# Altium schematic symbol library CHXXX.schlib: 532 symbols (part 3 of 8)
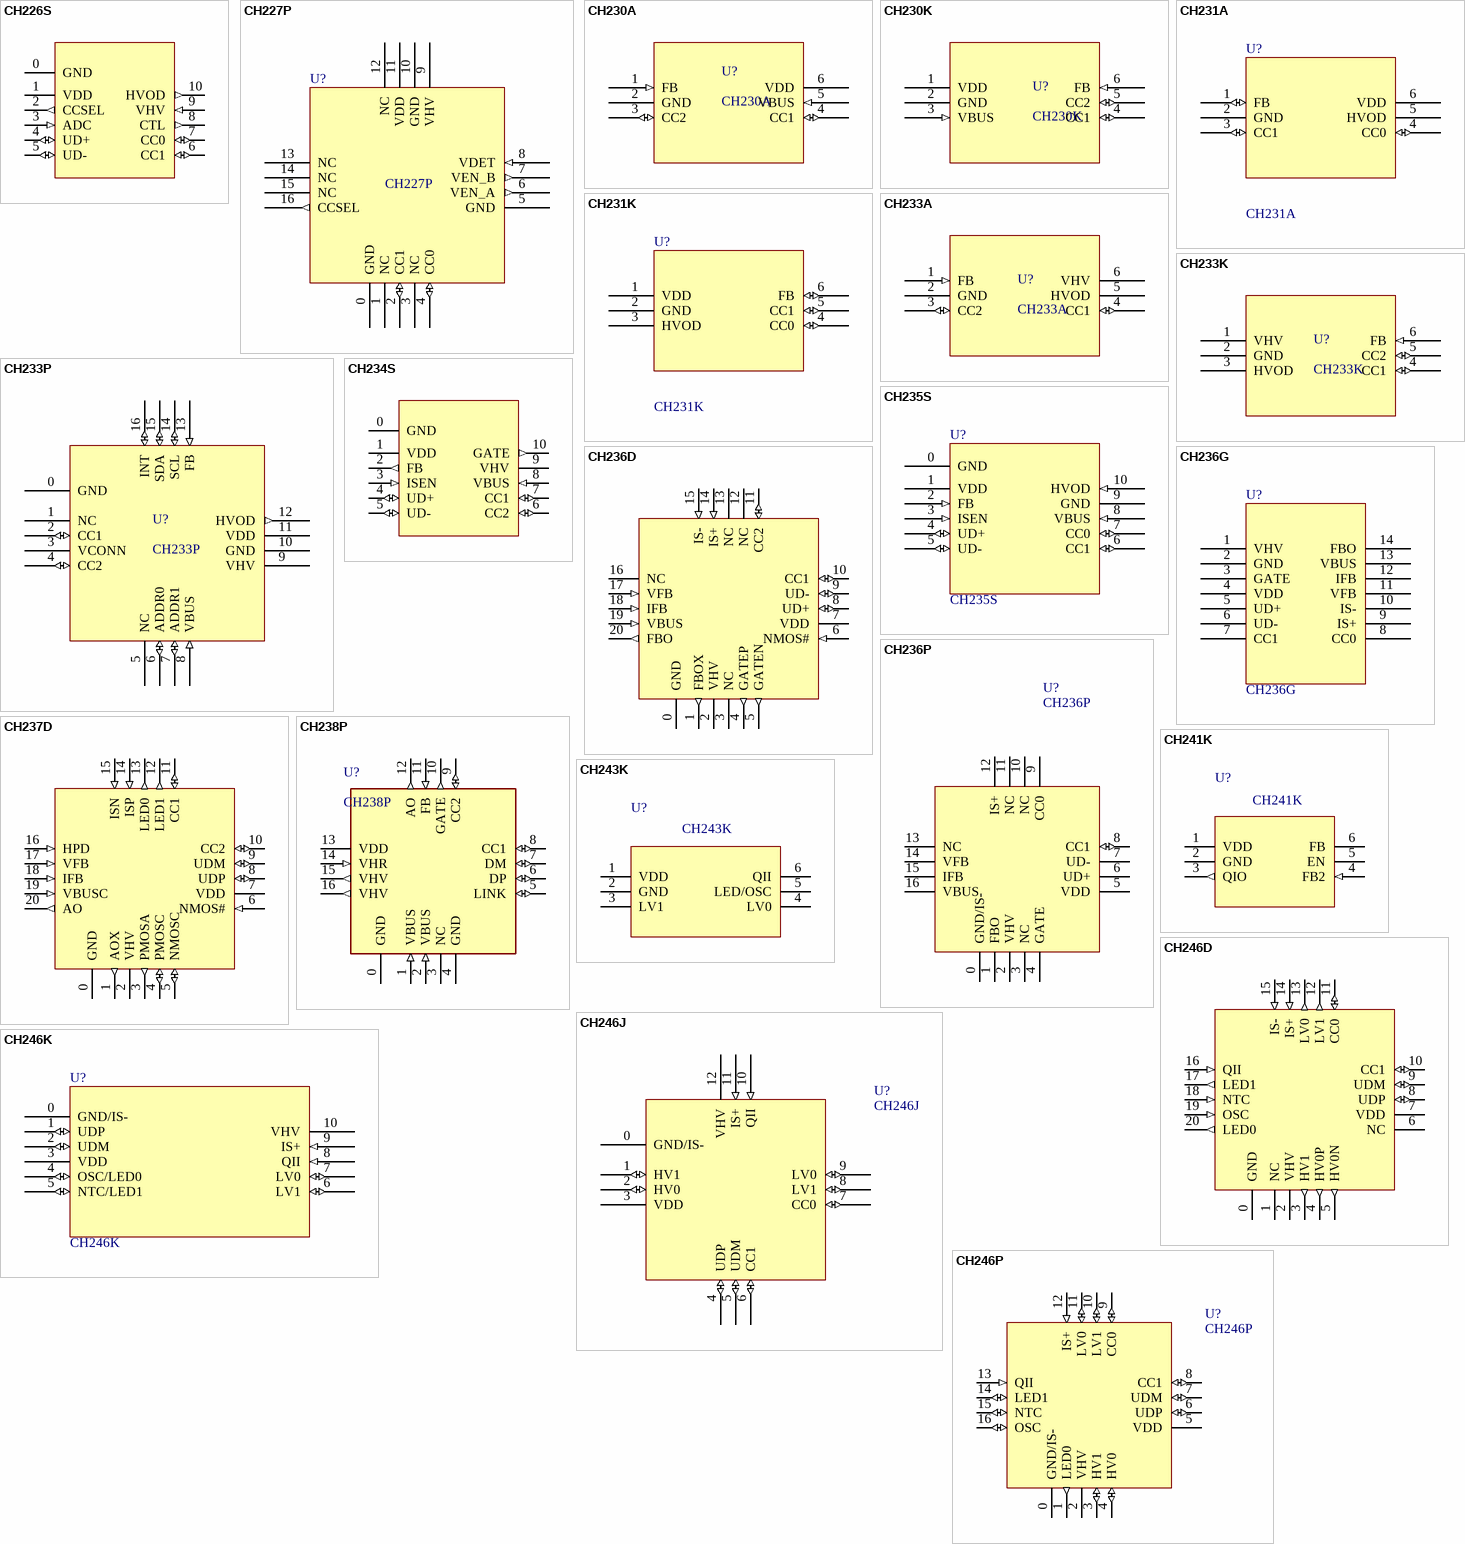
[diagram p72: symbols CH226S to CH246P]

## CH246K
designator U?
Wireless Charge Power with X-drive
footprint ESSOP10
pins: 0 GND/IS- (power), 1 UDP (io), 2 UDM (io), 3 VDD (power), 4 OSC/LED0 (io), 5 NTC/LED1 (io), 6 LV1 (io), 7 LV0 (io), 8 QII (in), 9 IS+ (in), 10 VHV (power)
2 alternate drawings of the same symbol

## CH246P
designator U?
Wireless Charge Power Provider Controller with USB PD & Fast Charge Sink
footprint QFN16_3X3
pins: 0 GND/IS- (power), 1 LED0 (out), 2 VHV (power), 3 HV1 (io), 4 HV0 (io), 5 VDD (power), 6 UDP (io), 7 UDM (io), 8 CC1 (io), 9 CC0 (io), 10 LV1 (io), 11 LV0 (io), 12 IS+ (in), 13 QII (in), 14 LED1 (io), 15 NTC (io), 16 OSC (io)
2 alternate drawings of the same symbol

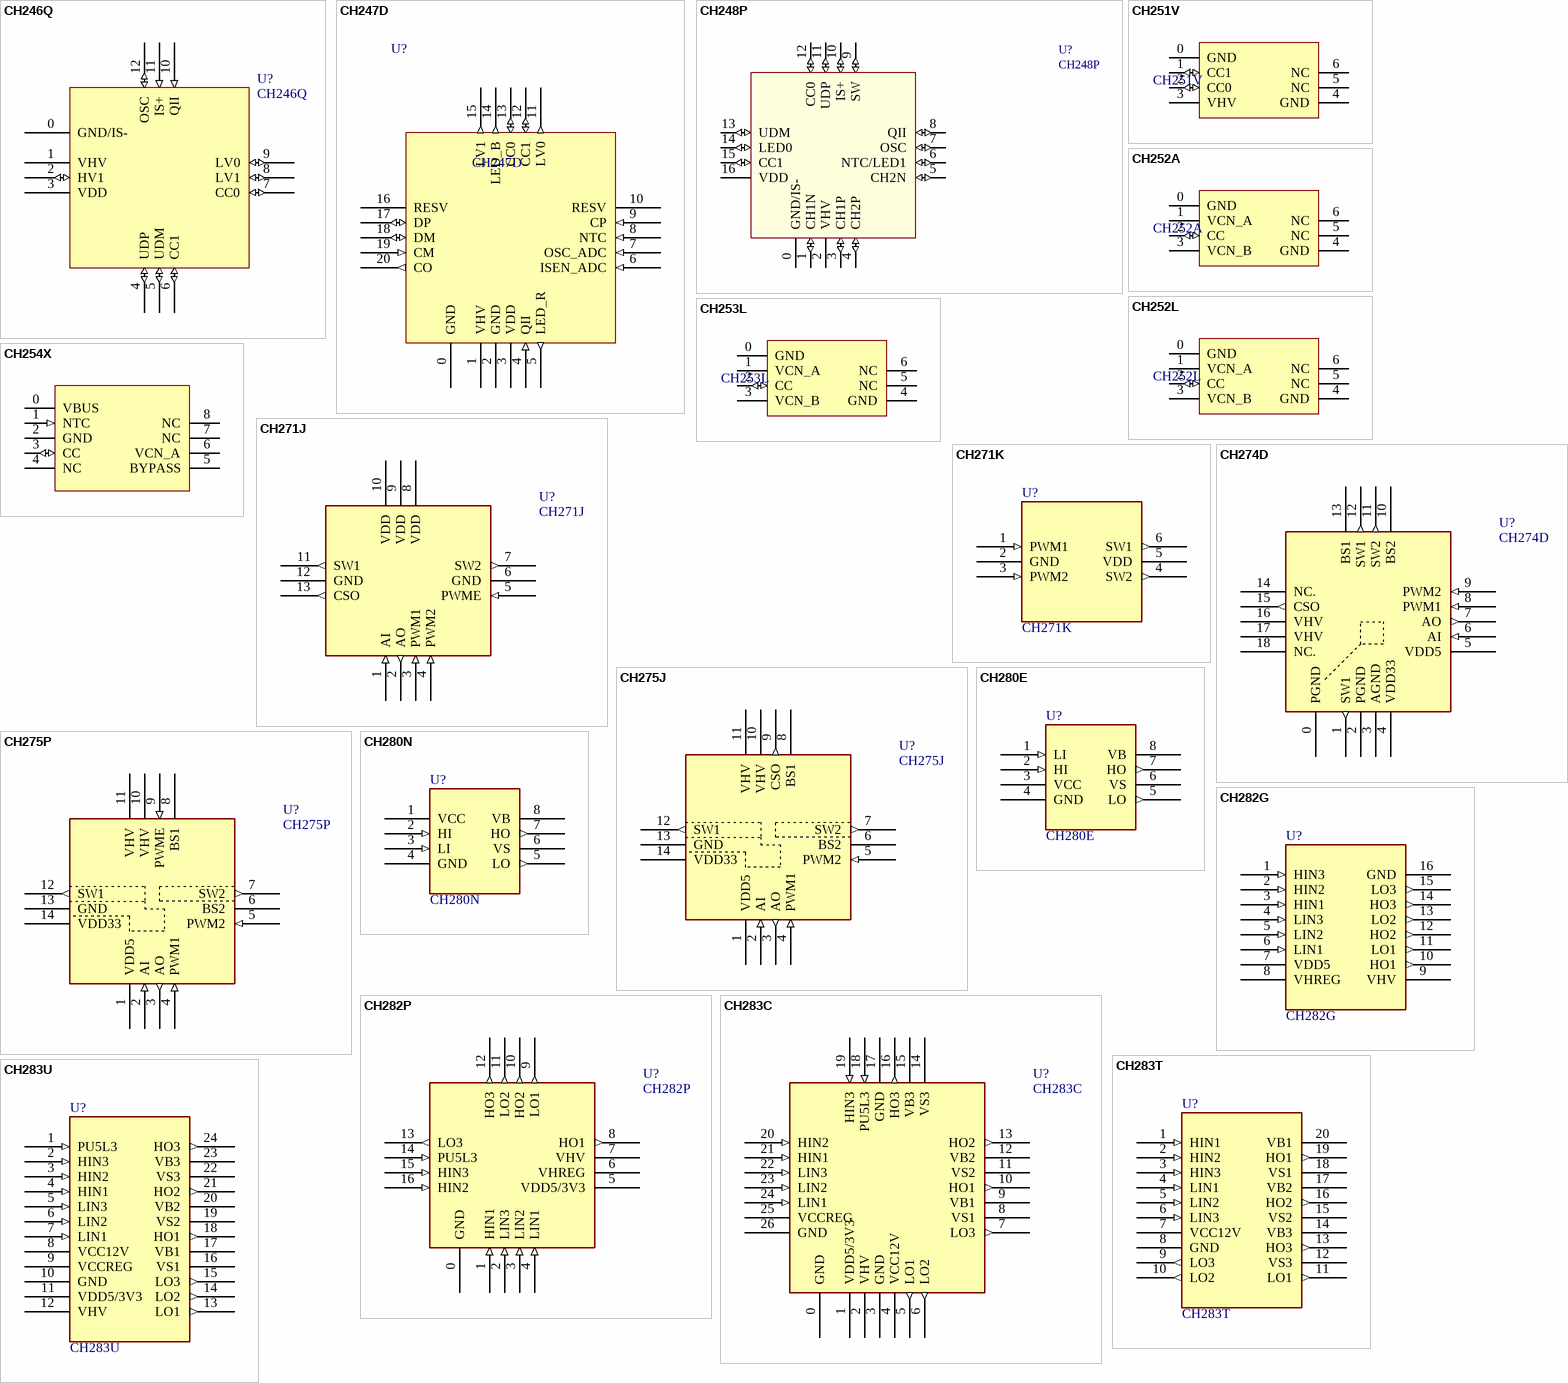
[diagram p19: symbols CH246Q to CH283U]

## CH246Q
designator U?
Wireless Charge Power with X-drive & PD Charge
footprint QFN12_2X2
pins: 0 GND/IS- (power), 1 VHV (power), 2 HV1 (io), 3 VDD (power), 4 UDP (io), 5 UDM (io), 6 CC1 (io), 7 CC0 (io), 8 LV1 (io), 9 LV0 (io), 10 QII (in), 11 IS+ (in), 12 OSC (io)
2 alternate drawings of the same symbol

## CH247D
designator U?
Wireless Charge Power Provider Controller with USB PD & Fast Charge Sink
footprint QFN20_3X3
pins: 0 GND (power), 1 VHV (power), 2 GND (power), 3 VDD (power), 4 QII (in), 5 LED_R (out), 6 ISEN_ADC (in), 7 OSC_ADC (in), 8 NTC (in), 9 CP (in), 10 RESV, 11 LV0 (out), 12 CC1 (io), 13 CC0 (io), 14 LED_B (out), 15 LV1 (out), 16 RESV, 17 DP (io), 18 DM (io), 19 CM (in), 20 CO (out)

## CH248P
designator U?
Wireless Charge Power Provider Controller with USB PD
footprint QFN16_3X3
pins: 0 GND/IS- (power), 1 CH1N (io), 2 VHV (power), 3 CH1P (io), 4 CH2P (io), 5 CH2N (io), 6 NTC/LED1 (io), 7 OSC (io), 8 QII (io), 9 SW (io), 10 IS+ (io), 11 UDP (io), 12 CC0 (io), 13 UDM (io), 14 LED0 (io), 15 CC1 (io), 16 VDD (power)
2 alternate drawings of the same symbol

## CH251V
designator U?
USB Type-C cable E-Marker
footprint DFN6_2X2
pins: 0 GND (power), 1 CC1 (io), 2 CC0 (io), 3 VHV (power), 4 GND (power), 5 NC, 6 NC

## CH252A
designator U?
USB Type-C cable E-Marker
footprint DFN6_2X2
pins: 0 GND (power), 1 VCN_A (power), 2 CC (io), 3 VCN_B (power), 4 GND (power), 5 NC, 6 NC

## CH252L
designator U?
USB Type-C cable E-Marker
footprint DFN6_2X2
pins: 0 GND (power), 1 VCN_A (power), 2 CC (io), 3 VCN_B (power), 4 GND (power), 5 NC, 6 NC

## CH253L
designator U?
USB Type-C cable E-Marker
footprint DFN6_2X2
pins: 0 GND (power), 1 VCN_A (power), 2 CC (io), 3 VCN_B (power), 4 GND (power), 5 NC, 6 NC

## CH254X
designator U?  (value not drawn)
USB Type-C cable E-Marker with over temperature protection
footprint DFN8_2x2 (Footprint not found)
pins: 0 VBUS (power), 1 NTC (in), 2 GND (power), 3 CC (io), 4 NC, 5 BYPASS (power), 6 VCN_A (power), 7 NC, 8 NC

## CH271J
designator U?
5V Full-Bridge Power Stage for Wireless Power Transmitter
footprint QFN13F_2X2 (Footprint not found)
pins: 1 AI (in), 2 AO (out), 3 PWM1 (in), 4 PWM2 (in), 5 PWME (in), 6 GND (power), 7 SW2 (out), 8 VDD (power), 9 VDD (power), 10 VDD (power), 11 SW1 (out), 12 GND (power), 13 CSO (out)
2 alternate drawings of the same symbol

## CH271K
designator U?
5V Full-Bridge Power Stage
footprint SOT-23-6
pins: 1 PWM1 (in), 2 GND (power), 3 PWM2 (in), 4 SW2 (out), 5 VDD (power), 6 SW1 (out)
2 alternate drawings of the same symbol

## CH274D
designator U?
12V Full-Bridge Power Stage for Wireless Power Transmitter
footprint QFN18E_3X3
pins: 0 PGND (power), 1 SW1 (out), 2 PGND (power), 3 AGND (power), 4 VDD33 (power), 5 VDD5 (power), 6 AI (in), 7 AO (out), 8 PWM1 (in), 9 PWM2 (in), 10 BS2 (power), 11 SW2 (out), 12 SW1 (out), 13 BS1 (power), 14 NC., 15 CSO (out), 16 VHV (power), 17 VHV (power), 18 NC.
2 alternate drawings of the same symbol

## CH275J
designator U?
20V Full-Bridge Power Stage for Wireless Power Transmitter
footprint QFN14F_3X3 (Footprint not found)
pins: 1 VDD5 (power), 2 AI (in), 3 AO (out), 4 PWM1 (in), 5 PWM2 (in), 6 BS2 (power), 7 SW2 (out), 8 BS1 (power), 9 CSO (out), 10 VHV (power), 11 VHV (power), 12 SW1 (out), 13 GND (power), 14 VDD33 (power)
2 alternate drawings of the same symbol

## CH275P
designator U?
20V Full-Bridge Power Stage for Wireless Power Transmitter
footprint QFN14F_3X3 (Footprint not found)
pins: 1 VDD5 (power), 2 AI (in), 3 AO (out), 4 PWM1 (in), 5 PWM2 (in), 6 BS2 (power), 7 SW2 (out), 8 BS1 (power), 9 PWME (in), 10 VHV (power), 11 VHV (power), 12 SW1 (out), 13 GND (power), 14 VDD33 (power)
2 alternate drawings of the same symbol

## CH280E
designator U?
NMOS half-bridge gate driver
footprint SOP8
pins: 1 LI (in), 2 HI (in), 3 VCC (power), 4 GND (power), 5 LO (out), 6 VS (power), 7 HO (out), 8 VB (power)
2 alternate drawings of the same symbol

## CH280N
designator U?
NMOS half-bridge gate driver
footprint SOP8
pins: 1 VCC (power), 2 HI (in), 3 LI (in), 4 GND (power), 5 LO (out), 6 VS (power), 7 HO (out), 8 VB (power)
2 alternate drawings of the same symbol

## CH282G
designator U?
three-phase P/NMOS gate driver with LDO
footprint SOP16
pins: 1 HIN3 (in), 2 HIN2 (in), 3 HIN1 (in), 4 LIN3 (in), 5 LIN2 (in), 6 LIN1 (in), 7 VDD5 (power), 8 VHREG (power), 9 VHV (power), 10 HO1 (out), 11 LO1 (out), 12 HO2 (out), 13 LO2 (out), 14 HO3 (out), 15 LO3 (out), 16 GND (power)
2 alternate drawings of the same symbol

## CH282P
designator U?
three-phase P/NMOS gate driver with LDO
footprint QFN16_3X3
pins: 0 GND (power), 1 HIN1 (in), 2 LIN3 (in), 3 LIN2 (in), 4 LIN1 (in), 5 VDD5/3V3 (power), 6 VHREG (power), 7 VHV (power), 8 HO1 (out), 9 LO1 (out), 10 HO2 (out), 11 LO2 (out), 12 HO3 (out), 13 LO3 (out), 14 PU5L3 (in), 15 HIN3 (in), 16 HIN2 (in)
2 alternate drawings of the same symbol

## CH283C
designator U?
three-phase NMOS gate driver with LDO
footprint QFN26C_3X3
pins: 0 GND (power), 1 VDD5/3V3 (power), 2 VHV (power), 3 GND (power), 4 VCC12V (power), 5 LO1 (out), 6 LO2 (out), 7 LO3 (out), 8 VS1 (power), 9 VB1 (power), 10 HO1 (out), 11 VS2 (power), 12 VB2 (power), 13 HO2 (out), 14 VS3 (power), 15 VB3 (power), 16 HO3 (out), 17 GND (power), 18 PU5L3 (in), 19 HIN3 (in), 20 HIN2 (in), 21 HIN1 (in), 22 LIN3 (in), 23 LIN2 (in), 24 LIN1 (in), 25 VCCREG (power), 26 GND (power)
2 alternate drawings of the same symbol

## CH283T
designator U?
three-phase NMOS gate driver
footprint TSSOP20
pins: 1 HIN1 (in), 2 HIN2 (in), 3 HIN3 (in), 4 LIN1 (in), 5 LIN2 (in), 6 LIN3 (in), 7 VCC12V (power), 8 GND (power), 9 LO3 (out), 10 LO2 (out), 11 LO1 (out), 12 VS3 (power), 13 HO3 (out), 14 VB3 (power), 15 VS2 (power), 16 HO2 (out), 17 VB2 (power), 18 VS1 (power), 19 HO1 (out), 20 VB1 (power)
2 alternate drawings of the same symbol

## CH283U
designator U?
three-phase NMOS gate driver with LDO
footprint QSOP24
pins: 1 PU5L3 (in), 2 HIN3 (in), 3 HIN2 (in), 4 HIN1 (in), 5 LIN3 (in), 6 LIN2 (in), 7 LIN1 (in), 8 VCC12V (power), 9 VCCREG (power), 10 GND (power), 11 VDD5/3V3 (power), 12 VHV (power), 13 LO1 (out), 14 LO2 (out), 15 LO3 (out), 16 VS1 (power), 17 VB1 (power), 18 HO1 (out), 19 VS2 (power), 20 VB2 (power), 21 HO2 (out), 22 VS3 (power), 23 VB3 (power), 24 HO3 (out)
2 alternate drawings of the same symbol

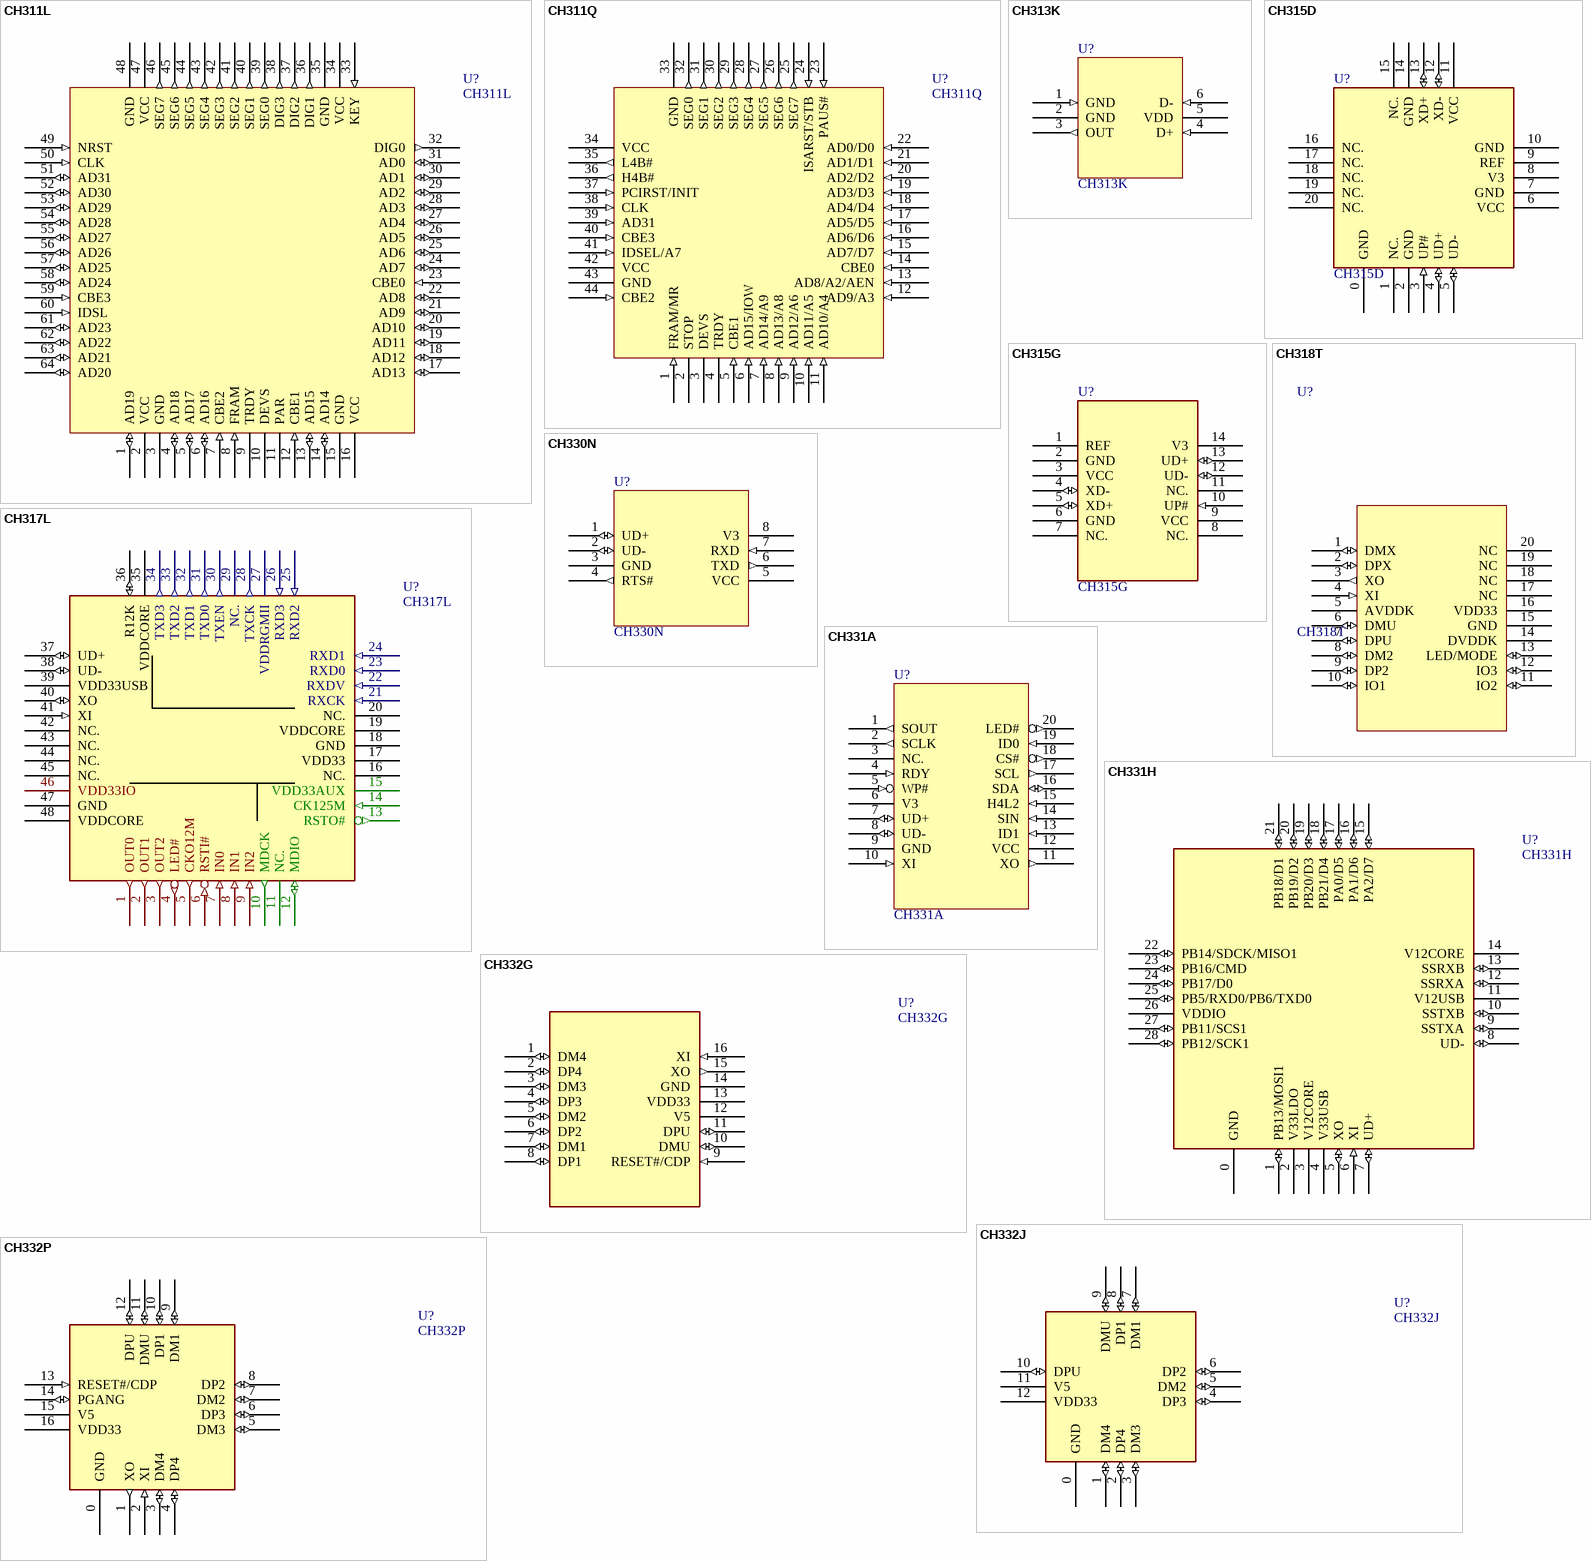
[diagram p20: symbols CH311L to CH332P]

## CH311L
designator U?
PC debug port monitor, 4 Digits * 8 Segments, PCI
footprint LQFP64
pins: 1 AD19 (io), 2 VCC (power), 3 GND (power), 4 AD18 (io), 5 AD17 (io), 6 AD16 (io), 7 CBE2 (in), 8 FRAM (in), 9 TRDY (hiz), 10 DEVS (hiz), 11 PAR (hiz), 12 CBE1 (in), 13 AD15 (io), 14 AD14 (io), 15 GND (power), 16 VCC (power), 17 AD13 (io), 18 AD12 (io), 19 AD11 (io), 20 AD10 (io), 21 AD9 (io), 22 AD8 (io), 23 CBE0 (in), 24 AD7 (io), 25 AD6 (io), 26 AD5 (io), 27 AD4 (io), 28 AD3 (io), 29 AD2 (io), 30 AD1 (io), 31 AD0 (io), 32 DIG0 (out), 33 KEY (in), 34 VCC (power), 35 GND (power), 36 DIG1 (out), 37 DIG2 (out), 38 DIG3 (out), 39 SEG0 (out), 40 SEG1 (out), 41 SEG2 (out), 42 SEG3 (out), 43 SEG4 (out), 44 SEG5 (out), 45 SEG6 (out), 46 SEG7 (out), 47 VCC (power), 48 GND (power), 49 NRST (in), 50 CLK (in), 51 AD31 (io), 52 AD30 (io), 53 AD29 (io), 54 AD28 (io), 55 AD27 (io), 56 AD26 (io), 57 AD25 (io), 58 AD24 (io), 59 CBE3 (in), 60 IDSL (in), 61 AD23 (io), 62 AD22 (io), 63 AD21 (io), 64 AD20 (io)

## CH311Q
designator U?
PC debug port monitor, 2 Digits * 8 Segments, PCI & ISA & LPT
footprint LQFP44
pins: 1 FRAM/MR (in), 2 STOP (hiz), 3 DEVS (hiz), 4 TRDY (hiz), 5 CBE1 (in), 6 AD15/IOW (in), 7 AD14/A9 (in), 8 AD13/A8 (in), 9 AD12/A6 (in), 10 AD11/A5 (in), 11 AD10/A4 (in), 12 AD9/A3 (in), 13 AD8/A2/AEN (in), 14 CBE0 (in), 15 AD7/D7 (in), 16 AD6/D6 (in), 17 AD5/D5 (in), 18 AD4/D4 (in), 19 AD3/D3 (in), 20 AD2/D2 (in), 21 AD1/D1 (in), 22 AD0/D0 (in), 23 PAUS# (in), 24 ISARST/STB (in), 25 SEG7 (out), 26 SEG6 (out), 27 SEG5 (out), 28 SEG4 (out), 29 SEG3 (out), 30 SEG2 (out), 31 SEG1 (out), 32 SEG0 (out), 33 GND (power), 34 VCC (power), 35 L4B# (out), 36 H4B# (out), 37 PCIRST/INIT (in), 38 CLK (in), 39 AD31 (in), 40 CBE3 (in), 41 IDSEL/A7 (in), 42 VCC (power), 43 GND (power), 44 CBE2 (in)

## CH313K
designator U?
USB transfer detection
footprint SOT-363
pins: 1 GND (in), 2 GND (power), 3 OUT (out), 4 D+ (in), 5 VDD (power), 6 D- (in)
2 alternate drawings of the same symbol

## CH315D
designator U?
USB lengthen wire controller, Full-Speed & Low-Speed
footprint QFN20_3X3 (Footprint not found)
pins: 0 GND (power), 1 NC., 2 GND (power), 3 UP# (in), 4 UD+ (io), 5 UD- (io), 6 VCC (power), 7 GND (power), 8 V3 (power), 9 REF (power), 10 GND (power), 11 VCC (power), 12 XD- (io), 13 XD+ (io), 14 GND (power), 15 NC., 16 NC., 17 NC., 18 NC., 19 NC., 20 NC.

## CH315G
designator U?
USB lengthen wire controller, Full-Speed & Low-Speed
footprint SOP14
pins: 1 REF (power), 2 GND (power), 3 VCC (power), 4 XD- (io), 5 XD+ (io), 6 GND (power), 7 NC., 8 NC., 9 VCC (power), 10 UP# (in), 11 NC., 12 UD- (io), 13 UD+ (io), 14 V3 (power)

## CH317L
designator U?
High-Speed USB lengthen wire controller for longer distance
footprint LQFP48
pins: 1 OUT0 (out), 2 OUT1 (out), 3 OUT2 (out), 4 LED# (out), 5 CKO12M (out), 6 RSTI# (in), 7 IN0 (in), 8 IN1 (in), 9 IN2 (in), 10 MDCK (out), 11 NC., 12 MDIO (io), 13 RSTO# (out), 14 CK125M (in), 15 VDD33AUX (power), 16 NC., 17 VDD33 (power), 18 GND (power), 19 VDDCORE (power), 20 NC., 21 RXCK (in), 22 RXDV (in), 23 RXD0 (in), 24 RXD1 (in), 25 RXD2 (in), 26 RXD3 (in), 27 VDDRGMII (power), 28 TXCK (out), 29 NC., 30 TXEN (out), 31 TXD0 (out), 32 TXD1 (out), 33 TXD2 (out), 34 TXD3 (out), 35 VDDCORE (power), 36 R12K (io), 37 UD+ (io), 38 UD- (io), 39 VDD33USB (power), 40 XO (io), 41 XI (in), 42 NC., 43 NC., 44 NC., 45 NC., 46 VDD33IO (power), 47 GND (power), 48 VDDCORE (power)

## CH318T
designator U?
2 ports High-Speed USB Hub Isolator
footprint TSSOP20
pins: 1 DMX (io), 2 DPX (io), 3 XO (out), 4 XI (in), 5 AVDDK (power), 6 DMU (io), 7 DPU (io), 8 DM2 (io), 9 DP2 (io), 10 IO1 (io), 11 IO2 (io), 12 IO3 (io), 13 LED/MODE (io), 14 DVDDK (power), 15 GND (power), 16 VDD33 (power), 17 NC, 18 NC, 19 NC, 20 NC
2 alternate drawings of the same symbol

## CH330N
designator U?
USB to TTL Serial / UART
footprint SOP8
pins: 1 UD+ (io), 2 UD- (io), 3 GND (power), 4 RTS# (out), 5 VCC (power), 6 TXD (out), 7 RXD (in), 8 V3 (power)

## CH331A
designator U?
Mini USB Disk Controller for serial EEPROM or Flash
footprint SSOP20
pins: 1 SOUT (out), 2 SCLK (out), 3 NC., 4 RDY (in), 5 WP# (in), 6 V3 (power), 7 UD+ (io), 8 UD- (io), 9 GND (power), 10 XI (in), 11 XO (out), 12 VCC (power), 13 ID1 (in), 14 SIN (in), 15 H4L2 (in), 16 SDA (io), 17 SCL (out), 18 CS# (out), 19 ID0 (in), 20 LED# (out)

## CH331H
designator U?
RISC-V USB 3.0 Disk Controller with AES/SM4
footprint QFN28_5X5
pins: 0 GND (power), 1 PB13/MOSI1 (io), 2 V33LDO (power), 3 V12CORE (power), 4 V33USB (power), 5 XO (io), 6 XI (in), 7 UD+ (io), 8 UD- (io), 9 SSTXA (io), 10 SSTXB (io), 11 V12USB (power), 12 SSRXA (io), 13 SSRXB (io), 14 V12CORE (power), 15 PA2/D7 (io), 16 PA1/D6 (io), 17 PA0/D5 (io), 18 PB21/D4 (io), 19 PB20/D3 (io), 20 PB19/D2 (io), 21 PB18/D1 (io), 22 PB14/SDCK/MISO1 (io), 23 PB16/CMD (io), 24 PB17/D0 (io), 25 PB5/RXD0/PB6/TXD0 (io), 26 VDDIO (power), 27 PB11/SCS1 (io), 28 PB12/SCK1 (io)
2 alternate drawings of the same symbol

## CH332G
designator U?
4 ports High-Speed USB STT Hub
footprint SOP16 (Footprint not found)
pins: 1 DM4 (io), 2 DP4 (io), 3 DM3 (io), 4 DP3 (io), 5 DM2 (io), 6 DP2 (io), 7 DM1 (io), 8 DP1 (io), 9 RESET#/CDP (in), 10 DMU (io), 11 DPU (io), 12 V5 (power), 13 VDD33 (power), 14 GND (power), 15 XO (out), 16 XI (in)
2 alternate drawings of the same symbol

## CH332J
designator U?
4 ports High-Speed USB STT Hub with internal oscillator
footprint QFN12_2X2
pins: 0 GND (power), 1 DM4 (io), 2 DP4 (io), 3 DM3 (io), 4 DP3 (io), 5 DM2 (io), 6 DP2 (io), 7 DM1 (io), 8 DP1 (io), 9 DMU (io), 10 DPU (io), 11 V5 (power), 12 VDD33 (power)
2 alternate drawings of the same symbol

## CH332P
designator U?
4 ports High-Speed USB STT Hub
footprint QFN16_3X3 (Footprint not found)
pins: 0 GND (power), 1 XO (out), 2 XI (in), 3 DM4 (io), 4 DP4 (io), 5 DM3 (io), 6 DP3 (io), 7 DM2 (io), 8 DP2 (io), 9 DM1 (io), 10 DP1 (io), 11 DMU (io), 12 DPU (io), 13 RESET#/CDP (in), 14 PGANG (io), 15 V5 (power), 16 VDD33 (power)
2 alternate drawings of the same symbol

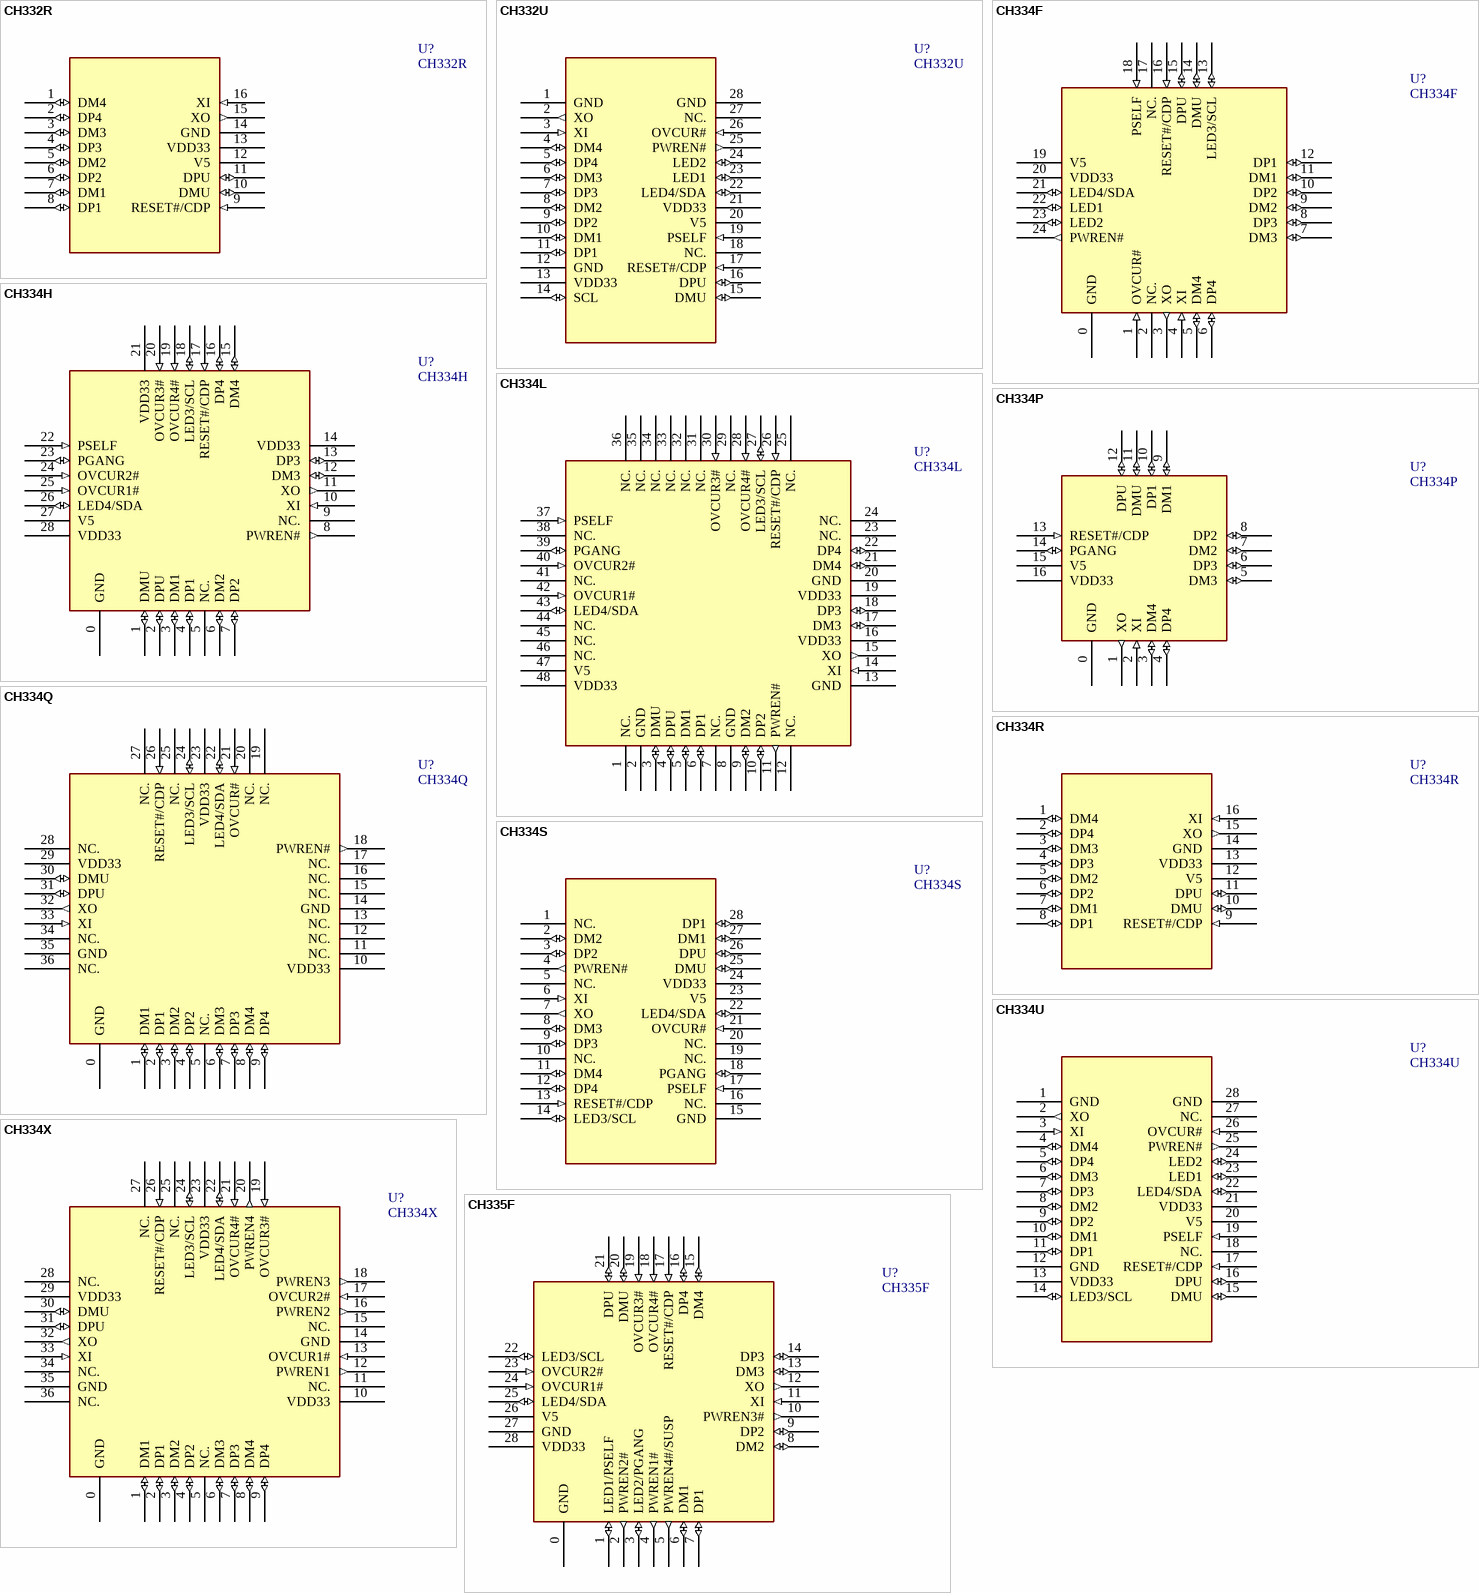
[diagram p21: symbols CH332R to CH335F]

## CH332R
designator U?
4 ports High-Speed USB STT Hub
footprint QSOP16 (Footprint not found)
pins: 1 DM4 (io), 2 DP4 (io), 3 DM3 (io), 4 DP3 (io), 5 DM2 (io), 6 DP2 (io), 7 DM1 (io), 8 DP1 (io), 9 RESET#/CDP (in), 10 DMU (io), 11 DPU (io), 12 V5 (power), 13 VDD33 (power), 14 GND (power), 15 XO (out), 16 XI (in)
2 alternate drawings of the same symbol

## CH332U
designator U?
4 ports High-Speed USB STT Hub with over current detect & power control
footprint QSOP28 (Footprint not found)
pins: 1 GND (power), 2 XO (out), 3 XI (in), 4 DM4 (io), 5 DP4 (io), 6 DM3 (io), 7 DP3 (io), 8 DM2 (io), 9 DP2 (io), 10 DM1 (io), 11 DP1 (io), 12 GND (power), 13 VDD33 (power), 14 SCL (io), 15 DMU (io), 16 DPU (io), 17 RESET#/CDP (in), 18 NC., 19 PSELF (in), 20 V5 (power), 21 VDD33 (power), 22 LED4/SDA (io), 23 LED1 (io), 24 LED2 (io), 25 PWREN# (out), 26 OVCUR# (in), 27 NC., 28 GND (power)
2 alternate drawings of the same symbol

## CH334F
designator U?
4 ports High-Speed USB MTT Hub with over current detect & power control
footprint QFN24_4X4 (Footprint not found)
pins: 0 GND (power), 1 OVCUR# (in), 2 NC., 3 XO (out), 4 XI (in), 5 DM4 (io), 6 DP4 (io), 7 DM3 (io), 8 DP3 (io), 9 DM2 (io), 10 DP2 (io), 11 DM1 (io), 12 DP1 (io), 13 LED3/SCL (io), 14 DMU (io), 15 DPU (io), 16 RESET#/CDP (in), 17 NC., 18 PSELF (in), 19 V5 (power), 20 VDD33 (power), 21 LED4/SDA (io), 22 LED1 (io), 23 LED2 (io), 24 PWREN# (out)
2 alternate drawings of the same symbol

## CH334H
designator U?
4 ports High-Speed USB MTT Hub with 4 over current detect
footprint QFN28_5X5 (Footprint not found)
pins: 0 GND (power), 1 DMU (io), 2 DPU (io), 3 DM1 (io), 4 DP1 (io), 5 NC., 6 DM2 (io), 7 DP2 (io), 8 PWREN# (out), 9 NC., 10 XI (in), 11 XO (out), 12 DM3 (io), 13 DP3 (io), 14 VDD33 (power), 15 DM4 (io), 16 DP4 (io), 17 RESET#/CDP (in), 18 LED3/SCL (io), 19 OVCUR4# (in), 20 OVCUR3# (in), 21 VDD33 (power), 22 PSELF (in), 23 PGANG (io), 24 OVCUR2# (in), 25 OVCUR1# (in), 26 LED4/SDA (io), 27 V5 (power), 28 VDD33 (power)
2 alternate drawings of the same symbol

## CH334L
designator U?
4 ports High-Speed USB MTT Hub with 4 over current detect
footprint LQFP48 (Footprint not found)
pins: 1 NC., 2 GND (power), 3 DMU (io), 4 DPU (io), 5 DM1 (io), 6 DP1 (io), 7 NC., 8 GND (power), 9 DM2 (io), 10 DP2 (io), 11 PWREN# (out), 12 NC., 13 GND (power), 14 XI (in), 15 XO (out), 16 VDD33 (power), 17 DM3 (io), 18 DP3 (io), 19 VDD33 (power), 20 GND (power), 21 DM4 (io), 22 DP4 (io), 23 NC., 24 NC., 25 NC., 26 RESET#/CDP (in), 27 LED3/SCL (io), 28 OVCUR4# (in), 29 NC., 30 OVCUR3# (in), 31 NC., 32 NC., 33 NC., 34 NC., 35 NC., 36 NC., 37 PSELF (in), 38 NC., 39 PGANG (io), 40 OVCUR2# (in), 41 NC., 42 OVCUR1# (in), 43 LED4/SDA (io), 44 NC., 45 NC., 46 NC., 47 V5 (power), 48 VDD33 (power)
2 alternate drawings of the same symbol

## CH334P
designator U?
4 ports High-Speed USB MTT Hub
footprint QFN16_3X3 (Footprint not found)
pins: 0 GND (power), 1 XO (out), 2 XI (in), 3 DM4 (io), 4 DP4 (io), 5 DM3 (io), 6 DP3 (io), 7 DM2 (io), 8 DP2 (io), 9 DM1 (io), 10 DP1 (io), 11 DMU (io), 12 DPU (io), 13 RESET#/CDP (in), 14 PGANG (io), 15 V5 (power), 16 VDD33 (power)
2 alternate drawings of the same symbol

## CH334Q
designator U?
4 ports High-Speed USB MTT Hub with over current detect & power control
footprint QFN36_6X6
pins: 0 GND (power), 1 DM1 (io), 2 DP1 (io), 3 DM2 (io), 4 DP2 (io), 5 NC., 6 DM3 (io), 7 DP3 (io), 8 DM4 (io), 9 DP4 (io), 10 VDD33 (power), 11 NC., 12 NC., 13 NC., 14 GND (power), 15 NC., 16 NC., 17 NC., 18 PWREN# (out), 19 NC., 20 NC., 21 OVCUR# (in), 22 LED4/SDA (io), 23 VDD33 (power), 24 LED3/SCL (io), 25 NC., 26 RESET#/CDP (in), 27 NC., 28 NC., 29 VDD33 (power), 30 DMU (io), 31 DPU (io), 32 XO (out), 33 XI (in), 34 NC., 35 GND (power), 36 NC.
2 alternate drawings of the same symbol

## CH334R
designator U?
4 ports High-Speed USB MTT Hub
footprint QSOP16 (Footprint not found)
pins: 1 DM4 (io), 2 DP4 (io), 3 DM3 (io), 4 DP3 (io), 5 DM2 (io), 6 DP2 (io), 7 DM1 (io), 8 DP1 (io), 9 RESET#/CDP (in), 10 DMU (io), 11 DPU (io), 12 V5 (power), 13 VDD33 (power), 14 GND (power), 15 XO (out), 16 XI (in)
2 alternate drawings of the same symbol

## CH334S
designator U?
4 ports High-Speed USB MTT Hub with over current detect & power control
footprint SSOP28 (Footprint not found)
pins: 1 NC., 2 DM2 (io), 3 DP2 (io), 4 PWREN# (out), 5 NC., 6 XI (in), 7 XO (out), 8 DM3 (io), 9 DP3 (io), 10 NC., 11 DM4 (io), 12 DP4 (io), 13 RESET#/CDP (in), 14 LED3/SCL (io), 15 GND (power), 16 NC., 17 PSELF (in), 18 PGANG (io), 19 NC., 20 NC., 21 OVCUR# (in), 22 LED4/SDA (io), 23 V5 (power), 24 VDD33 (power), 25 DMU (io), 26 DPU (io), 27 DM1 (io), 28 DP1 (io)
2 alternate drawings of the same symbol

## CH334U
designator U?
4 ports High-Speed USB MTT Hub with over current detect & power control
footprint QSOP28 (Footprint not found)
pins: 1 GND (power), 2 XO (out), 3 XI (in), 4 DM4 (io), 5 DP4 (io), 6 DM3 (io), 7 DP3 (io), 8 DM2 (io), 9 DP2 (io), 10 DM1 (io), 11 DP1 (io), 12 GND (power), 13 VDD33 (power), 14 LED3/SCL (io), 15 DMU (io), 16 DPU (io), 17 RESET#/CDP (in), 18 NC., 19 PSELF (in), 20 V5 (power), 21 VDD33 (power), 22 LED4/SDA (io), 23 LED1 (io), 24 LED2 (io), 25 PWREN# (out), 26 OVCUR# (in), 27 NC., 28 GND (power)
2 alternate drawings of the same symbol

## CH334X
designator U?
4 ports High-Speed USB MTT Hub with 4 over current detect & power control
footprint QFN36_6X6
pins: 0 GND (power), 1 DM1 (io), 2 DP1 (io), 3 DM2 (io), 4 DP2 (io), 5 NC., 6 DM3 (io), 7 DP3 (io), 8 DM4 (io), 9 DP4 (io), 10 VDD33 (power), 11 NC., 12 PWREN1 (out), 13 OVCUR1# (in), 14 GND (power), 15 NC., 16 PWREN2 (out), 17 OVCUR2# (in), 18 PWREN3 (out), 19 OVCUR3# (in), 20 PWREN4 (out), 21 OVCUR4# (in), 22 LED4/SDA (io), 23 VDD33 (power), 24 LED3/SCL (io), 25 NC., 26 RESET#/CDP (in), 27 NC., 28 NC., 29 VDD33 (power), 30 DMU (io), 31 DPU (io), 32 XO (out), 33 XI (in), 34 NC., 35 GND (power), 36 NC.
2 alternate drawings of the same symbol

## CH335F
designator U?
4 ports High-Speed USB MTT Hub with 4 over current detect & power control
footprint QFN28_4X4
pins: 0 GND (power), 1 LED1/PSELF (io), 2 PWREN2# (out), 3 LED2/PGANG (io), 4 PWREN1# (out), 5 PWREN4#/SUSP (out), 6 DM1 (io), 7 DP1 (io), 8 DM2 (io), 9 DP2 (io), 10 PWREN3# (out), 11 XI (in), 12 XO (out), 13 DM3 (io), 14 DP3 (io), 15 DM4 (io), 16 DP4 (io), 17 RESET#/CDP (in), 18 OVCUR4# (in), 19 OVCUR3# (in), 20 DMU (io), 21 DPU (io), 22 LED3/SCL (io), 23 OVCUR2# (in), 24 OVCUR1# (in), 25 LED4/SDA (io), 26 V5 (power), 27 GND (power), 28 VDD33 (power)
2 alternate drawings of the same symbol

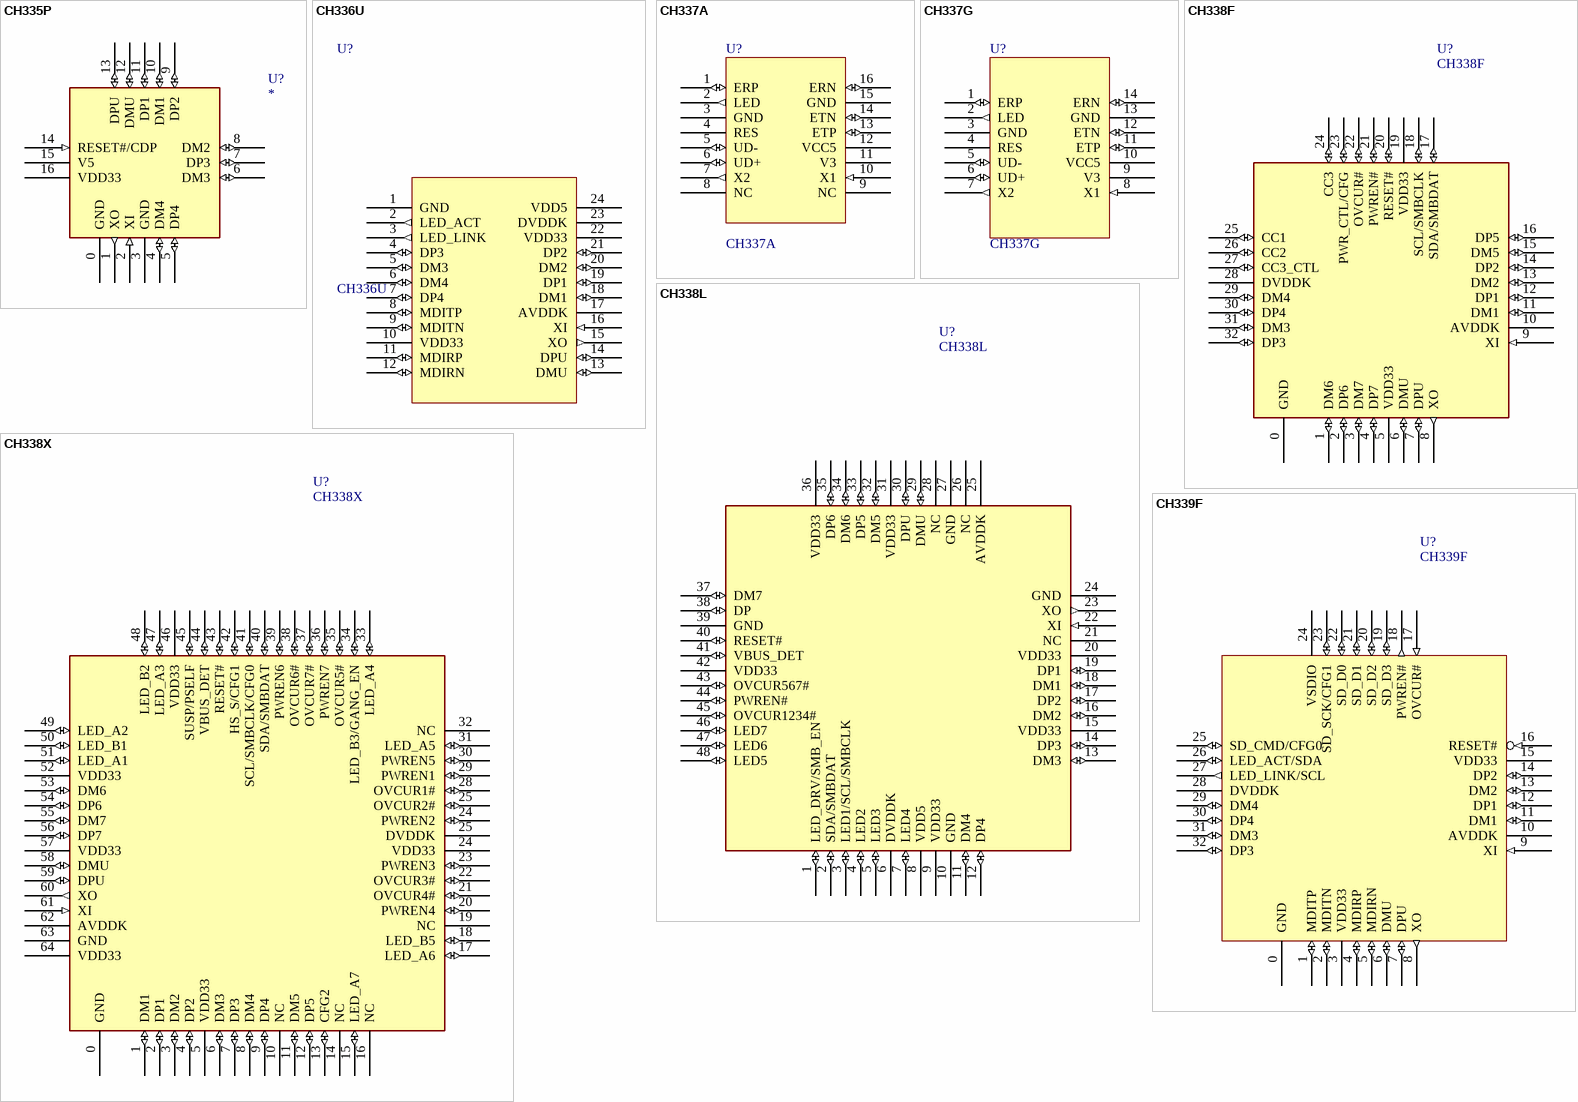
[diagram p22: symbols CH335P to CH339F]

## CH335P
designator U?
4 ports High-Speed USB MTT Hub with internal oscillator
footprint QFN16C_2X2
pins: 0 GND (power), 1 XO (out), 2 XI (in), 3 GND (power), 4 DM4 (io), 5 DP4 (io), 6 DM3 (io), 7 DP3 (io), 8 DM2 (io), 9 DP2 (io), 10 DM1 (io), 11 DP1 (io), 12 DMU (io), 13 DPU (io), 14 RESET#/CDP (in), 15 V5 (power), 16 VDD33 (power)
2 alternate drawings of the same symbol

## CH336U
designator U?
4 ports High-Speed USB MTT Hub with ethernet
footprint QSOP24
pins: 1 GND (power), 2 LED_ACT (out), 3 LED_LINK (out), 4 DP3 (io), 5 DM3 (io), 6 DM4 (io), 7 DP4 (io), 8 MDITP (io), 9 MDITN (io), 10 VDD33 (power), 11 MDIRP (io), 12 MDIRN (io), 13 DMU (io), 14 DPU (io), 15 XO (out), 16 XI (in), 17 AVDDK (power), 18 DM1 (io), 19 DP1 (io), 20 DM2 (io), 21 DP2 (io), 22 VDD33 (power), 23 DVDDK (power), 24 VDD5 (power)
2 alternate drawings of the same symbol

## CH337A
designator U?
USB to 10Mbps Ethernet
footprint SOP16
pins: 1 ERP (io), 2 LED (out), 3 GND (power), 4 RES, 5 UD- (io), 6 UD+ (io), 7 X2 (out), 8 NC, 9 NC, 10 X1 (in), 11 V3 (power), 12 VCC5 (power), 13 ETP (io), 14 ETN (io), 15 GND (power), 16 ERN (io)

## CH337G
designator U?
USB to 10Mbps Ethernet
footprint SOP14
pins: 1 ERP (io), 2 LED (out), 3 GND (power), 4 RES, 5 UD- (io), 6 UD+ (io), 7 X2 (out), 8 X1 (in), 9 V3 (power), 10 VCC5 (power), 11 ETP (io), 12 ETN (io), 13 GND (power), 14 ERN (io)

## CH338F
designator U?
7 ports High-Speed USB MTT Hub with PD
footprint QFN32_4X4
pins: 0 GND (power), 1 DM6 (io), 2 DP6 (io), 3 DM7 (io), 4 DP7 (io), 5 VDD33 (power), 6 DMU (io), 7 DPU (io), 8 XO (out), 9 XI (in), 10 AVDDK (power), 11 DM1 (io), 12 DP1 (io), 13 DM2 (io), 14 DP2 (io), 15 DM5 (io), 16 DP5 (io), 17 SDA/SMBDAT (io), 18 SCL/SMBCLK (io), 19 VDD33 (power), 20 RESET# (io), 21 PWREN# (io), 22 OVCUR# (io), 23 PWR_CTL/CFG (io), 24 CC3 (io), 25 CC1 (io), 26 CC2 (io), 27 CC3_CTL (io), 28 DVDDK (power), 29 DM4 (io), 30 DP4 (io), 31 DM3 (io), 32 DP3 (io)

## CH338L
designator U?
7 ports High-Speed USB MTT Hub
footprint LQFP48
pins: 1 LED_DRV/SMB_EN (io), 2 SDA/SMBDAT (io), 3 LED1/SCL/SMBCLK (io), 4 LED2 (io), 5 LED3 (io), 6 DVDDK (power), 7 LED4 (io), 8 VDD5 (power), 9 VDD33 (power), 10 GND (power), 11 DM4 (io), 12 DP4 (io), 13 DM3 (io), 14 DP3 (io), 15 VDD33 (power), 16 DM2 (io), 17 DP2 (io), 18 DM1 (io), 19 DP1 (io), 20 VDD33 (power), 21 NC, 22 XI (in), 23 XO (out), 24 GND (power), 25 AVDDK (power), 26 NC, 27 GND (power), 28 NC, 29 DMU (io), 30 DPU (io), 31 VDD33 (power), 32 DM5 (io), 33 DP5 (io), 34 DM6 (io), 35 DP6 (io), 36 VDD33 (power), 37 DM7 (io), 38 DP (io), 39 GND (power), 40 RESET# (io), 41 VBUS_DET (io), 42 VDD33 (power), 43 OVCUR567# (io), 44 PWREN# (io), 45 OVCUR1234# (io), 46 LED7 (io), 47 LED6 (io), 48 LED5 (io)

## CH338X
designator U?
7 ports High-Speed USB MTT Hub
footprint QFN64_9X9
pins: 0 GND (power), 1 DM1 (io), 2 DP1 (io), 3 DM2 (io), 4 DP2 (io), 5 VDD33 (power), 6 DM3 (io), 7 DP3 (io), 8 DM4 (io), 9 DP4 (io), 10 NC, 11 DM5 (io), 12 DP5 (io), 13 CFG2 (io), 14 NC, 15 LED_A7 (io), 16 NC, 17 LED_A6 (io), 18 LED_B5 (io), 19 NC, 20 PWREN4 (io), 21 OVCUR4# (io), 22 OVCUR3# (io), 23 PWREN3 (io), 24 VDD33 (power), 24 PWREN2 (io), 25 DVDDK (power), 25 OVCUR2# (io), 28 OVCUR1# (io), 29 PWREN1 (io), 30 PWREN5 (io), 31 LED_A5 (io), 32 NC, 33 LED_A4 (io), 34 LED_B3/GANG_EN (io), 35 OVCUR5# (io), 36 PWREN7 (io), 37 OVCUR7# (io), 38 OVCUR6# (io), 39 PWREN6 (io), 40 SDA/SMBDAT (io), 41 SCL/SMBCLK/CFG0 (io), 42 HS_S/CFG1 (io), 43 RESET# (io), 44 VBUS_DET (io), 45 SUSP/PSELF (io), 46 VDD33 (power), 47 LED_A3 (io), 48 LED_B2 (io), 49 LED_A2 (io), 50 LED_B1 (io), 51 LED_A1 (io), 52 VDD33 (power), 53 DM6 (io), 54 DP6 (io), 55 DM7 (io), 56 DP7 (io), 57 VDD33 (power), 58 DMU (io), 59 DPU (io), 60 XO (out), 61 XI (in), 62 AVDDK (power), 63 GND (power), 64 VDD33 (power)

## CH339F
designator U?
4 ports High-Speed USB MTT Hub with SDIO & ethernet
footprint QFN32_4X4
pins: 0 GND (power), 1 MDITP (io), 2 MDITN (io), 3 VDD33 (power), 4 MDIRP (io), 5 MDIRN (io), 6 DMU (io), 7 DPU (io), 8 XO (out), 9 XI (in), 10 AVDDK (power), 11 DM1 (io), 12 DP1 (io), 13 DM2 (io), 14 DP2 (io), 15 VDD33 (power), 16 RESET# (in), 17 OVCUR# (in), 18 PWREN# (out), 19 SD_D3 (io), 20 SD_D2 (io), 21 SD_D1 (io), 22 SD_D0 (io), 23 SD_SCK/CFG1 (io), 24 VSDIO (power), 25 SD_CMD/CFG0 (io), 26 LED_ACT/SDA (io), 27 LED_LINK/SCL (out), 28 DVDDK (power), 29 DM4 (io), 30 DP4 (io), 31 DM3 (io), 32 DP3 (io)
2 alternate drawings of the same symbol

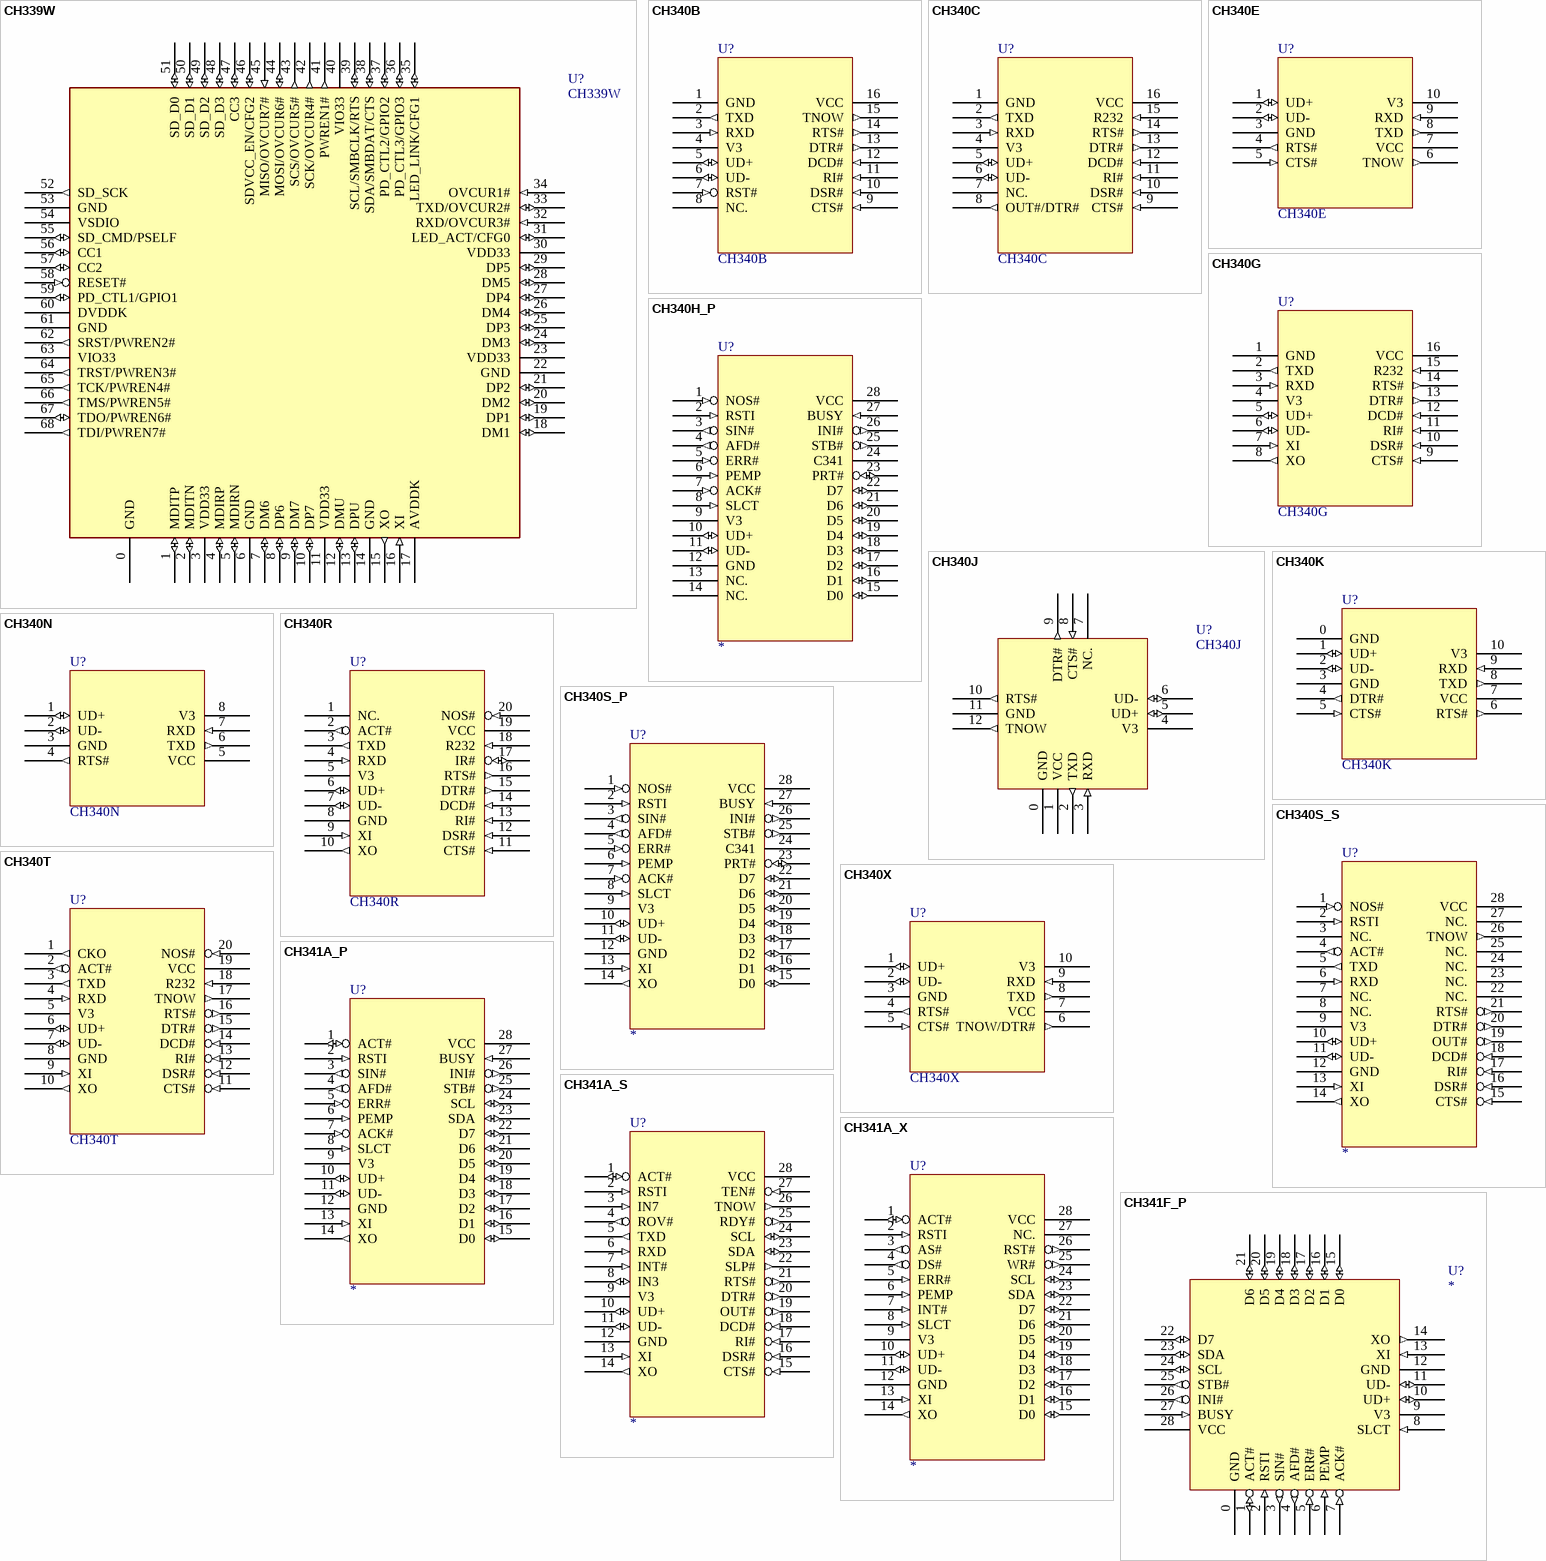
[diagram p23: symbols CH339W to CH341F_P]

## CH339W
designator U?
7 ports High-Speed USB MTT Hub with PD & SDIO & ethernet
footprint QFN68_8X8
pins: 0 GND (power), 1 MDITP (io), 2 MDITN (io), 3 VDD33 (power), 4 MDIRP (io), 5 MDIRN (io), 6 GND (power), 7 DM6 (io), 8 DP6 (io), 9 DM7 (io), 10 DP7 (io), 11 VDD33 (power), 12 DMU (io), 13 DPU (io), 14 GND (power), 15 XO (out), 16 XI (in), 17 AVDDK (power), 18 DM1 (io), 19 DP1 (io), 20 DM2 (io), 21 DP2 (io), 22 GND (power), 23 VDD33 (power), 24 DM3 (io), 25 DP3 (io), 26 DM4 (io), 27 DP4 (io), 28 DM5 (io), 29 DP5 (io), 30 VDD33 (power), 31 LED_ACT/CFG0 (io), 32 RXD/OVCUR3# (in), 33 TXD/OVCUR2# (io), 34 OVCUR1# (in), 35 LED_LINK/CFG1 (io), 36 PD_CTL3/GPIO3 (io), 37 PD_CTL2/GPIO2 (io), 38 SDA/SMBDAT/CTS (io), 39 SCL/SMBCLK/RTS (io), 40 VIO33 (power), 41 PWREN1# (out), 42 SCK/OVCUR4# (out), 43 SCS/OVCUR5# (out), 44 MOSI/OVCUR6# (io), 45 MISO/OVCUR7# (in), 46 SDVCC_EN/CFG2 (io), 47 CC3 (io), 48 SD_D3 (io), 49 SD_D2 (io), 50 SD_D1 (io), 51 SD_D0 (io), 52 SD_SCK (out), 53 GND (power), 54 VSDIO (power), 55 SD_CMD/PSELF (io), 56 CC1 (io), 57 CC2 (io), 58 RESET# (in), 59 PD_CTL1/GPIO1 (io), 60 DVDDK (power), 61 GND (power), 62 SRST/PWREN2# (out), 63 VIO33 (power), 64 TRST/PWREN3# (out), 65 TCK/PWREN4# (out), 66 TMS/PWREN5# (out), 67 TDO/PWREN6# (io), 68 TDI/PWREN7# (out)
2 alternate drawings of the same symbol

## CH340B
designator U?
USB to TTL Serial / UART, Integrated clock
footprint SOP16
pins: 1 GND (power), 2 TXD (out), 3 RXD (in), 4 V3 (power), 5 UD+ (io), 6 UD- (io), 7 RST# (in), 8 NC., 9 CTS# (in), 10 DSR# (in), 11 RI# (in), 12 DCD# (in), 13 DTR# (out), 14 RTS# (out), 15 TNOW (out), 16 VCC (power)

## CH340C
designator U?
USB to TTL Serial / UART
footprint SOP16
pins: 1 GND (power), 2 TXD (out), 3 RXD (in), 4 V3 (power), 5 UD+ (io), 6 UD- (io), 7 NC., 8 OUT#/DTR# (out), 9 CTS# (in), 10 DSR# (in), 11 RI# (in), 12 DCD# (in), 13 DTR# (out), 14 RTS# (out), 15 R232 (in), 16 VCC (power)

## CH340E
designator U?
USB to TTL Serial / UART
footprint MSOP10
pins: 1 UD+ (io), 2 UD- (io), 3 GND (power), 4 RTS# (out), 5 CTS# (in), 6 TNOW (out), 7 VCC (power), 8 TXD (out), 9 RXD (in), 10 V3 (power)

## CH340G
designator U?
USB to TTL Serial / UART
footprint SOP16
pins: 1 GND (power), 2 TXD (out), 3 RXD (in), 4 V3 (power), 5 UD+ (io), 6 UD- (io), 7 XI (in), 8 XO (out), 9 CTS# (in), 10 DSR# (in), 11 RI# (in), 12 DCD# (in), 13 DTR# (out), 14 RTS# (out), 15 R232 (in), 16 VCC (power)

## CH340H_P
designator U?
USB to Print Port / Parallel
footprint SOP28
footprint DIP28
pins: 1 NOS# (in), 2 RSTI (in), 3 SIN# (out), 4 AFD# (out), 5 ERR# (in), 6 PEMP (in), 7 ACK# (in), 8 SLCT (in), 9 V3 (power), 10 UD+ (io), 11 UD- (io), 12 GND (power), 13 NC., 14 NC., 15 D0 (io), 16 D1 (io), 17 D2 (io), 18 D3 (io), 19 D4 (io), 20 D5 (io), 21 D6 (io), 22 D7 (io), 23 PRT# (io), 24 C341, 25 STB# (out), 26 INI# (out), 27 BUSY (in), 28 VCC (power)

## CH340J
designator U?
USB to TTL Serial / UART
footprint QFN12_2X2
pins: 0 GND (power), 1 VCC (power), 2 TXD (out), 3 RXD (in), 4 V3 (power), 5 UD+ (io), 6 UD- (io), 7 NC., 8 CTS# (in), 9 DTR# (out), 10 RTS# (out), 11 GND (power), 12 TNOW (out)

## CH340K
designator U?
USB to TTL Serial / UART for dual power
footprint ESSOP10
pins: 0 GND (power), 1 UD+ (io), 2 UD- (io), 3 GND (power), 4 DTR# (out), 5 CTS# (in), 6 RTS# (out), 7 VCC (power), 8 TXD (out), 9 RXD (in), 10 V3 (power)

## CH340N
designator U?
USB to TTL Serial / UART
footprint SOP8
pins: 1 UD+ (io), 2 UD- (io), 3 GND (power), 4 RTS# (out), 5 VCC (power), 6 TXD (out), 7 RXD (in), 8 V3 (power)

## CH340R
designator U?
USB to IrDA, USB to RS232 Serial
footprint SSOP20
pins: 1 NC., 2 ACT# (out), 3 TXD (out), 4 RXD (in), 5 V3 (power), 6 UD+ (io), 7 UD- (io), 8 GND (power), 9 XI (in), 10 XO (out), 11 CTS# (in), 12 DSR# (in), 13 RI# (in), 14 DCD# (in), 15 DTR# (out), 16 RTS# (out), 17 IR# (io), 18 R232 (in), 19 VCC (power), 20 NOS# (in)

## CH340S_P
designator U?
USB to Print Port / Parallel
footprint SOP28
footprint DIP28
pins: 1 NOS# (in), 2 RSTI (in), 3 SIN# (out), 4 AFD# (out), 5 ERR# (in), 6 PEMP (in), 7 ACK# (in), 8 SLCT (in), 9 V3 (power), 10 UD+ (io), 11 UD- (io), 12 GND (power), 13 XI (in), 14 XO (out), 15 D0 (io), 16 D1 (io), 17 D2 (io), 18 D3 (io), 19 D4 (io), 20 D5 (io), 21 D6 (io), 22 D7 (io), 23 PRT# (io), 24 C341, 25 STB# (out), 26 INI# (out), 27 BUSY (in), 28 VCC (power)

## CH340S_S
designator U?
USB to TTL Serial / UART, pin compatible with CH341
footprint SOP28
footprint DIP28
pins: 1 NOS# (in), 2 RSTI (in), 3 NC., 4 ACT# (out), 5 TXD (out), 6 RXD (in), 7 NC., 8 NC., 9 V3 (power), 10 UD+ (io), 11 UD- (io), 12 GND (power), 13 XI (in), 14 XO (out), 15 CTS# (in), 16 DSR# (in), 17 RI# (in), 18 DCD# (in), 19 OUT# (out), 20 DTR# (out), 21 RTS# (out), 22 NC., 23 NC., 24 NC., 25 NC., 26 TNOW (out), 27 NC., 28 VCC (power)

## CH340T
designator U?
USB to TTL Serial / UART,  USB to IrDA
footprint SSOP20
pins: 1 CKO (out), 2 ACT# (out), 3 TXD (out), 4 RXD (in), 5 V3 (power), 6 UD+ (io), 7 UD- (io), 8 GND (power), 9 XI (in), 10 XO (out), 11 CTS# (in), 12 DSR# (in), 13 RI# (in), 14 DCD# (in), 15 DTR# (out), 16 RTS# (out), 17 TNOW (out), 18 R232 (in), 19 VCC (power), 20 NOS# (in)

## CH340X
designator U?
USB to TTL Serial / UART
footprint MSOP10
pins: 1 UD+ (io), 2 UD- (io), 3 GND (power), 4 RTS# (out), 5 CTS# (in), 6 TNOW/DTR# (out), 7 VCC (power), 8 TXD (out), 9 RXD (in), 10 V3 (power)

## CH341A_P
designator U?
USB to Print Port / Parallel
footprint SOP28
footprint TSSOP28
footprint DIP28
pins: 1 ACT# (io), 2 RSTI (in), 3 SIN# (out), 4 AFD# (out), 5 ERR# (in), 6 PEMP (in), 7 ACK# (in), 8 SLCT (in), 9 V3 (power), 10 UD+ (io), 11 UD- (io), 12 GND (power), 13 XI (in), 14 XO (out), 15 D0 (io), 16 D1 (io), 17 D2 (io), 18 D3 (io), 19 D4 (io), 20 D5 (io), 21 D6 (io), 22 D7 (io), 23 SDA (io), 24 SCL (io), 25 STB# (out), 26 INI# (out), 27 BUSY (in), 28 VCC (power)

## CH341A_S
designator U?
USB to TTL Serial / UART / I2C/IIC
footprint SOP28
footprint TSSOP28
footprint DIP28
pins: 1 ACT# (io), 2 RSTI (in), 3 IN7 (in), 4 ROV# (out), 5 TXD (out), 6 RXD (in), 7 INT# (in), 8 IN3 (io), 9 V3 (power), 10 UD+ (io), 11 UD- (io), 12 GND (power), 13 XI (in), 14 XO (out), 15 CTS# (in), 16 DSR# (in), 17 RI# (in), 18 DCD# (in), 19 OUT# (out), 20 DTR# (out), 21 RTS# (out), 22 SLP# (out), 23 SDA (io), 24 SCL (io), 25 RDY# (out), 26 TNOW (out), 27 TEN# (in), 28 VCC (power)

## CH341A_X
designator U?
USB to EPP Parallel / SPI / I2C/IIC
footprint SOP28
footprint TSSOP28
footprint DIP28
pins: 1 ACT# (io), 2 RSTI (in), 3 AS# (out), 4 DS# (out), 5 ERR# (in), 6 PEMP (in), 7 INT# (in), 8 SLCT (in), 9 V3 (power), 10 UD+ (io), 11 UD- (io), 12 GND (power), 13 XI (in), 14 XO (out), 15 D0 (io), 16 D1 (io), 17 D2 (io), 18 D3 (io), 19 D4 (io), 20 D5 (io), 21 D6 (io), 22 D7 (io), 23 SDA (io), 24 SCL (io), 25 WR# (out), 26 RST# (out), 27 NC., 28 VCC (power)

## CH341F_P
designator U?
USB to Print Port / Parallel
footprint QFN28_4X4
footprint DIP28
pins: 0 GND (power), 1 ACT# (io), 2 RSTI (in), 3 SIN# (out), 4 AFD# (out), 5 ERR# (in), 6 PEMP (in), 7 ACK# (in), 8 SLCT (in), 9 V3 (power), 10 UD+ (io), 11 UD- (io), 12 GND (power), 13 XI (in), 14 XO (out), 15 D0 (io), 16 D1 (io), 17 D2 (io), 18 D3 (io), 19 D4 (io), 20 D5 (io), 21 D6 (io), 22 D7 (io), 23 SDA (io), 24 SCL (io), 25 STB# (out), 26 INI# (out), 27 BUSY (in), 28 VCC (power)

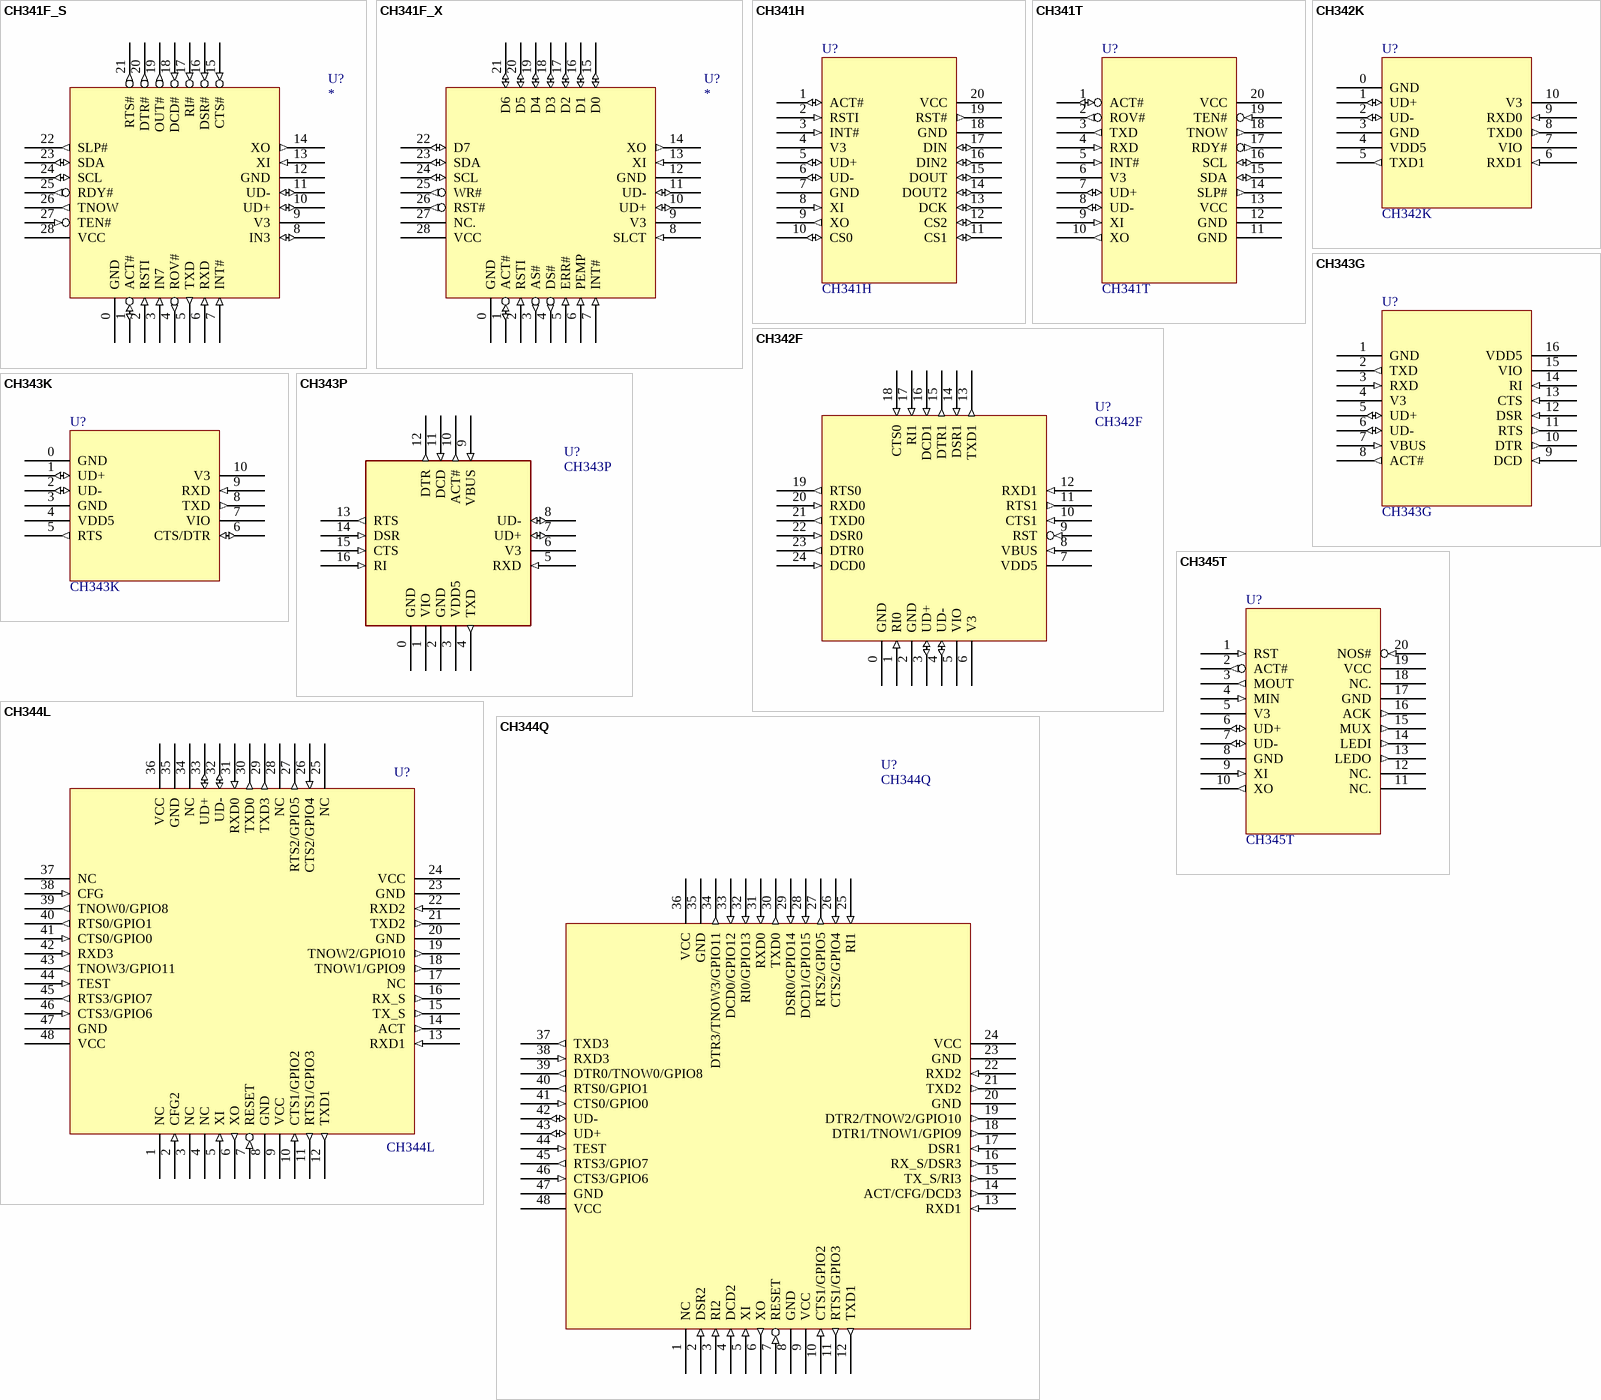
[diagram p24: symbols CH341F_S to CH345T]

## CH341F_S
designator U?
USB to TTL Serial / UART / I2C/IIC
footprint QFN28_4X4
footprint DIP28
pins: 0 GND (power), 1 ACT# (io), 2 RSTI (in), 3 IN7 (in), 4 ROV# (out), 5 TXD (out), 6 RXD (in), 7 INT# (in), 8 IN3 (io), 9 V3 (power), 10 UD+ (io), 11 UD- (io), 12 GND (power), 13 XI (in), 14 XO (out), 15 CTS# (in), 16 DSR# (in), 17 RI# (in), 18 DCD# (in), 19 OUT# (out), 20 DTR# (out), 21 RTS# (out), 22 SLP# (out), 23 SDA (io), 24 SCL (io), 25 RDY# (out), 26 TNOW (out), 27 TEN# (in), 28 VCC (power)

## CH341F_X
designator U?
USB to EPP Parallel / SPI / I2C/IIC
footprint QFN28_4X4
footprint DIP28
pins: 0 GND (power), 1 ACT# (io), 2 RSTI (in), 3 AS# (out), 4 DS# (out), 5 ERR# (in), 6 PEMP (in), 7 INT# (in), 8 SLCT (in), 9 V3 (power), 10 UD+ (io), 11 UD- (io), 12 GND (power), 13 XI (in), 14 XO (out), 15 D0 (io), 16 D1 (io), 17 D2 (io), 18 D3 (io), 19 D4 (io), 20 D5 (io), 21 D6 (io), 22 D7 (io), 23 SDA (io), 24 SCL (io), 25 WR# (out), 26 RST# (out), 27 NC., 28 VCC (power)

## CH341H
designator U?
USB to SPI
footprint SSOP20
pins: 1 ACT# (io), 2 RSTI (in), 3 INT# (in), 4 V3 (power), 5 UD+ (io), 6 UD- (io), 7 GND (power), 8 XI (in), 9 XO (out), 10 CS0 (io), 11 CS1 (io), 12 CS2 (io), 13 DCK (io), 14 DOUT2 (io), 15 DOUT (io), 16 DIN2 (io), 17 DIN (io), 18 GND (power), 19 RST# (out), 20 VCC (power)

## CH341T
designator U?
USB to TTL Serial / UART / I2C/IIC
footprint SSOP20
pins: 1 ACT# (io), 2 ROV# (out), 3 TXD (out), 4 RXD (in), 5 INT# (in), 6 V3 (power), 7 UD+ (io), 8 UD- (io), 9 XI (in), 10 XO (out), 11 GND (power), 12 GND (power), 13 VCC (power), 14 SLP# (out), 15 SDA (io), 16 SCL (io), 17 RDY# (out), 18 TNOW (out), 19 TEN# (in), 20 VCC (power)

## CH342F
designator U?
USB to dual enhanced TTL Serial / 2*UART
footprint QFN24_4X4
pins: 0 GND (power), 1 RI0 (in), 2 GND (power), 3 UD+ (io), 4 UD- (io), 5 VIO (power), 6 V3 (power), 7 VDD5 (power), 8 VBUS (in), 9 RST (in), 10 CTS1 (in), 11 RTS1 (out), 12 RXD1 (in), 13 TXD1 (out), 14 DSR1 (in), 15 DTR1 (out), 16 DCD1 (in), 17 RI1 (in), 18 CTS0 (in), 19 RTS0 (out), 20 RXD0 (in), 21 TXD0 (out), 22 DSR0 (in), 23 DTR0 (out), 24 DCD0 (in)

## CH342K
designator U?
USB to dual enhanced TTL Serial / 2*UART
footprint ESSOP10
pins: 0 GND (power), 1 UD+ (io), 2 UD- (io), 3 GND (power), 4 VDD5 (power), 5 TXD1 (out), 6 RXD1 (in), 7 VIO (power), 8 TXD0 (out), 9 RXD0 (in), 10 V3 (power)

## CH343G
designator U?
USB to high speed enhanced TTL Serial / UART
footprint SOP16
footprint DIP16
pins: 1 GND (power), 2 TXD (out), 3 RXD (in), 4 V3 (power), 5 UD+ (io), 6 UD- (io), 7 VBUS (in), 8 ACT# (out), 9 DCD (in), 10 DTR (out), 11 RTS (out), 12 DSR (in), 13 CTS (in), 14 RI (in), 15 VIO (power), 16 VDD5 (power)

## CH343K
designator U?
USB to high speed enhanced TTL Serial / UART
footprint ESSOP10
pins: 0 GND (power), 1 UD+ (io), 2 UD- (io), 3 GND (power), 4 VDD5 (power), 5 RTS (out), 6 CTS/DTR (io), 7 VIO (power), 8 TXD (out), 9 RXD (in), 10 V3 (power)

## CH343P
designator U?
USB to high speed enhanced TTL Serial / UART
footprint QFN16_3X3 (Footprint not found)
pins: 0 GND (power), 1 VIO (power), 2 GND (power), 3 VDD5 (power), 4 TXD (out), 5 RXD (in), 6 V3 (power), 7 UD+ (io), 8 UD- (io), 9 VBUS (in), 10 ACT# (out), 11 DCD (in), 12 DTR (out), 13 RTS (out), 14 DSR (in), 15 CTS (in), 16 RI (in)

## CH344L
designator U?
USB to quad serial port / 4*UART
footprint LQFP48 (Footprint not found)
pins: 1 NC, 2 CFG2 (in), 3 NC, 4 NC, 5 XI (in), 6 XO (out), 7 RESET (in), 8 GND (power), 9 VCC (power), 10 CTS1/GPIO2 (in), 11 RTS1/GPIO3 (out), 12 TXD1 (out), 13 RXD1 (in), 14 ACT (out), 15 TX_S (out), 16 RX_S (out), 17 NC, 18 TNOW1/GPIO9 (out), 19 TNOW2/GPIO10 (out), 20 GND (power), 21 TXD2 (out), 22 RXD2 (in), 23 GND (power), 24 VCC (power), 25 NC, 26 CTS2/GPIO4 (in), 27 RTS2/GPIO5 (out), 28 NC, 29 TXD3 (out), 30 TXD0 (out), 31 RXD0 (in), 32 UD- (io), 33 UD+ (io), 34 NC, 35 GND (power), 36 VCC (power), 37 NC, 38 CFG (in), 39 TNOW0/GPIO8 (out), 40 RTS0/GPIO1 (out), 41 CTS0/GPIO0 (in), 42 RXD3 (in), 43 TNOW3/GPIO11 (out), 44 TEST (in), 45 RTS3/GPIO7 (out), 46 CTS3/GPIO6 (in), 47 GND (power), 48 VCC (power)

## CH344Q
designator U?
High Speed USB to quad serial port / 4*UART
footprint LQFP48 (Footprint not found)
pins: 1 NC, 2 DSR2 (in), 3 RI2 (in), 4 DCD2 (in), 5 XI (in), 6 XO (out), 7 RESET (in), 8 GND (power), 9 VCC (power), 10 CTS1/GPIO2 (in), 11 RTS1/GPIO3 (out), 12 TXD1 (out), 13 RXD1 (in), 14 ACT/CFG/DCD3 (out), 15 TX_S/RI3 (out), 16 RX_S/DSR3 (out), 17 DSR1 (in), 18 DTR1/TNOW1/GPIO9 (out), 19 DTR2/TNOW2/GPIO10 (out), 20 GND (power), 21 TXD2 (out), 22 RXD2 (in), 23 GND (power), 24 VCC (power), 25 RI1 (in), 26 CTS2/GPIO4 (in), 27 RTS2/GPIO5 (out), 28 DCD1/GPIO15 (in), 29 DSR0/GPIO14 (in), 30 TXD0 (out), 31 RXD0 (in), 32 RI0/GPIO13 (in), 33 DCD0/GPIO12 (in), 34 DTR3/TNOW3/GPIO11 (out), 35 GND (power), 36 VCC (power), 37 TXD3 (out), 38 RXD3 (in), 39 DTR0/TNOW0/GPIO8 (out), 40 RTS0/GPIO1 (out), 41 CTS0/GPIO0 (in), 42 UD- (io), 43 UD+ (io), 44 TEST (in), 45 RTS3/GPIO7 (out), 46 CTS3/GPIO6 (in), 47 GND (power), 48 VCC (power)

## CH345T
designator U?
USB to MIDI
footprint SSOP20
pins: 1 RST (in), 2 ACT# (out), 3 MOUT (out), 4 MIN (in), 5 V3 (power), 6 UD+ (io), 7 UD- (io), 8 GND (power), 9 XI (in), 10 XO (out), 11 NC., 12 NC., 13 LEDO (out), 14 LEDI (out), 15 MUX (out), 16 ACK (out), 17 GND (power), 18 NC., 19 VCC (power), 20 NOS# (in)

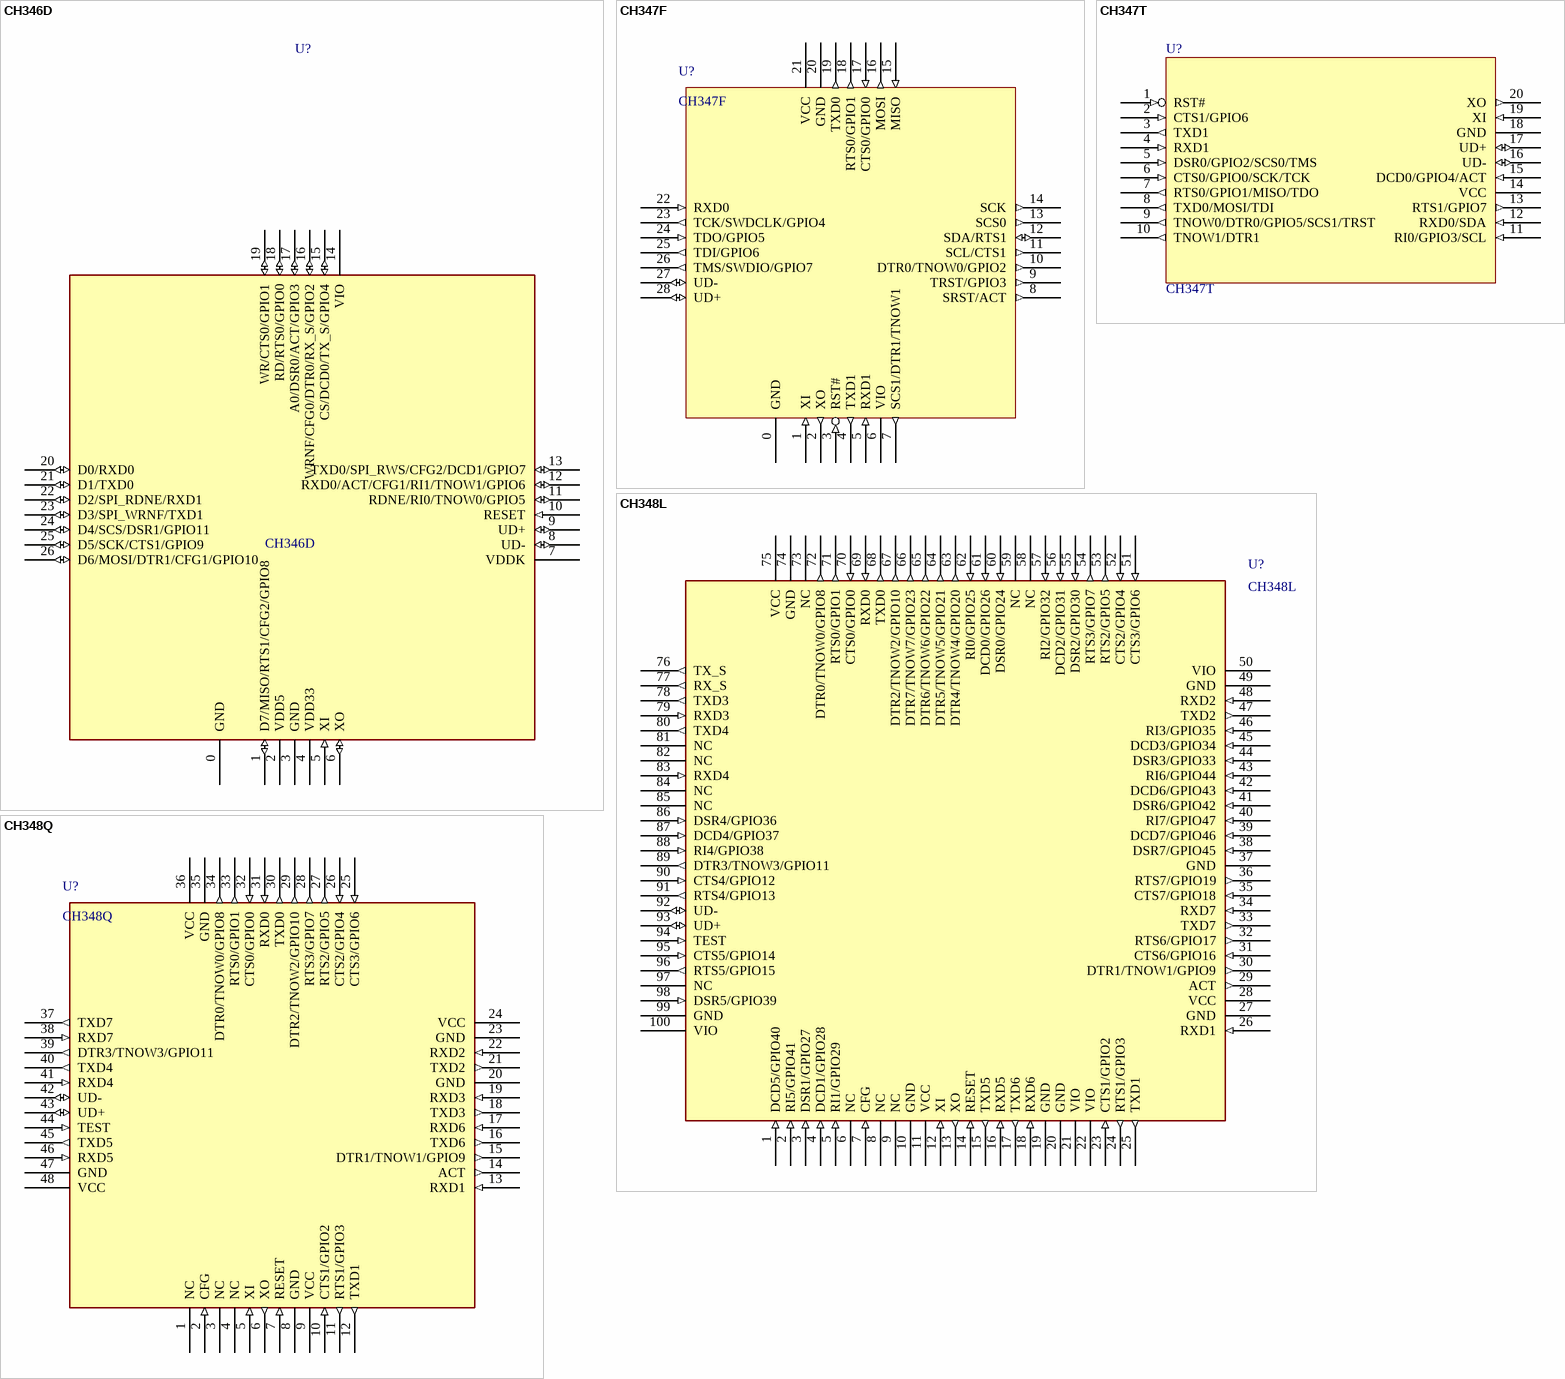
[diagram p25: symbols CH346D to CH348Q]

## CH346D
designator U?
high-speed USB to UART & SPI & Parallel
footprint QFN26C_3X3
pins: 0 GND (power), 1 D7/MISO/RTS1/CFG2/GPIO8 (io), 2 VDD5 (power), 3 GND (power), 4 VDD33 (power), 5 XI (in), 6 XO (io), 7 VDDK (power), 8 UD- (io), 9 UD+ (io), 10 RESET (in), 11 RDNE/RI0/TNOW0/GPIO5 (io), 12 RXD0/ACT/CFG1/RI1/TNOW1/GPIO6 (io), 13 TXD0/SPI_RWS/CFG2/DCD1/GPIO7 (io), 14 VIO (power), 15 CS/DCD0/TX_S/GPIO4 (io), 16 WRNF/CFG0/DTR0/RX_S/GPIO2 (io), 17 A0/DSR0/ACT/GPIO3 (io), 18 RD/RTS0/GPIO0 (io), 19 WR/CTS0/GPIO1 (io), 20 D0/RXD0 (io), 21 D1/TXD0 (io), 22 D2/SPI_RDNE/RXD1 (io), 23 D3/SPI_WRNF/TXD1 (io), 24 D4/SCS/DSR1/GPIO11 (io), 25 D5/SCK/CTS1/GPIO9 (io), 26 D6/MOSI/DTR1/CFG1/GPIO10 (io)

## CH347F
designator U?
High Speed USB to UART + SPI + IIC + JTAG
footprint QFN28_4X4
pins: 0 GND (power), 1 XI (in), 2 XO (out), 3 RST# (in), 4 TXD1 (out), 5 RXD1 (in), 6 VIO (power), 7 SCS1/DTR1/TNOW1 (out), 8 SRST/ACT (out), 9 TRST/GPIO3 (out), 10 DTR0/TNOW0/GPIO2 (out), 11 SCL/CTS1 (out), 12 SDA/RTS1 (io), 13 SCS0 (out), 14 SCK (out), 15 MISO (in), 16 MOSI (out), 17 CTS0/GPIO0 (in), 18 RTS0/GPIO1 (out), 19 TXD0 (out), 20 GND (power), 21 VCC (power), 22 RXD0 (in), 23 TCK/SWDCLK/GPIO4 (out), 24 TDO/GPIO5 (in), 25 TDI/GPIO6 (out), 26 TMS/SWDIO/GPIO7 (out), 27 UD- (io), 28 UD+ (io)

## CH347T
designator U?
High Speed USB to UART / SPI / IIC / JTAG
footprint TSSOP20
pins: 1 RST# (in), 2 CTS1/GPIO6 (in), 3 TXD1 (out), 4 RXD1 (in), 5 DSR0/GPIO2/SCS0/TMS (in), 6 CTS0/GPIO0/SCK/TCK (in), 7 RTS0/GPIO1/MISO/TDO (out), 8 TXD0/MOSI/TDI (out), 9 TNOW0/DTR0/GPIO5/SCS1/TRST (out), 10 TNOW1/DTR1 (out), 11 RI0/GPIO3/SCL (in), 12 RXD0/SDA (in), 13 RTS1/GPIO7 (out), 14 VCC (power), 15 DCD0/GPIO4/ACT (in), 16 UD- (io), 17 UD+ (io), 18 GND (power), 19 XI (in), 20 XO (out)

## CH348L
designator U?
High Speed USB to eight enhanced TTL Serial / 8 *UART
footprint LQFP100
pins: 1 DCD5/GPIO40 (in), 2 RI5/GPIO41 (in), 3 DSR1/GPIO27 (in), 4 DCD1/GPIO28 (in), 5 RI1/GPIO29 (in), 6 NC, 7 CFG (in), 8 NC, 9 NC, 10 GND (power), 11 VCC (power), 12 XI (in), 13 XO (out), 14 RESET (in), 15 TXD5 (out), 16 RXD5 (in), 17 TXD6 (out), 18 RXD6 (in), 19 GND (power), 20 GND (power), 21 VIO (power), 22 VIO (power), 23 CTS1/GPIO2 (in), 24 RTS1/GPIO3 (out), 25 TXD1 (out), 26 RXD1 (in), 27 GND (power), 28 VCC (power), 29 ACT (out), 30 DTR1/TNOW1/GPIO9 (out), 31 CTS6/GPIO16 (in), 32 RTS6/GPIO17 (out), 33 TXD7 (out), 34 RXD7 (in), 35 CTS7/GPIO18 (in), 36 RTS7/GPIO19 (out), 37 GND (power), 38 DSR7/GPIO45 (in), 39 DCD7/GPIO46 (in), 40 RI7/GPIO47 (in), 41 DSR6/GPIO42 (in), 42 DCD6/GPIO43 (in), 43 RI6/GPIO44 (in), 44 DSR3/GPIO33 (in), 45 DCD3/GPIO34 (in), 46 RI3/GPIO35 (in), 47 TXD2 (out), 48 RXD2 (in), 49 GND (power), 50 VIO (power), 51 CTS3/GPIO6 (in), 52 CTS2/GPIO4 (in), 53 RTS2/GPIO5 (out), 54 RTS3/GPIO7 (out), 55 DSR2/GPIO30 (in), 56 DCD2/GPIO31 (in), 57 RI2/GPIO32 (in), 58 NC, 59 NC, 60 DSR0/GPIO24 (in), 61 DCD0/GPIO26 (in), 62 RI0/GPIO25 (in), 63 DTR4/TNOW4/GPIO20 (out), 64 DTR5/TNOW5/GPIO21 (out), 65 DTR6/TNOW6/GPIO22 (out), 66 DTR7/TNOW7/GPIO23 (out), 67 DTR2/TNOW2/GPIO10 (out), 68 TXD0 (out), 69 RXD0 (in), 70 CTS0/GPIO0 (in), 71 RTS0/GPIO1 (out), 72 DTR0/TNOW0/GPIO8 (out), 73 NC, 74 GND (power), 75 VCC (power), 76 TX_S (out), 77 RX_S (out), 78 TXD3 (out), 79 RXD3 (in), 80 TXD4 (out), 81 NC, 82 NC, 83 RXD4 (in), 84 NC, 85 NC, 86 DSR4/GPIO36 (in), 87 DCD4/GPIO37 (in), 88 RI4/GPIO38 (in), 89 DTR3/TNOW3/GPIO11 (out), 90 CTS4/GPIO12 (in), 91 RTS4/GPIO13 (out), 92 UD- (io), 93 UD+ (io), 94 TEST (in), 95 CTS5/GPIO14 (in), 96 RTS5/GPIO15 (out), 97 NC, 98 DSR5/GPIO39 (in), 99 GND (power), 100 VIO (power)

## CH348Q
designator U?
High Speed USB to eight enhanced TTL Serial / 8 *UART
footprint LQFP48
pins: 1 NC, 2 CFG (in), 3 NC, 4 NC, 5 XI (in), 6 XO (out), 7 RESET (in), 8 GND (power), 9 VCC (power), 10 CTS1/GPIO2 (in), 11 RTS1/GPIO3 (out), 12 TXD1 (out), 13 RXD1 (in), 14 ACT (out), 15 DTR1/TNOW1/GPIO9 (out), 16 TXD6 (out), 17 RXD6 (in), 18 TXD3 (out), 19 RXD3 (in), 20 GND (power), 21 TXD2 (out), 22 RXD2 (in), 23 GND (power), 24 VCC (power), 25 CTS3/GPIO6 (in), 26 CTS2/GPIO4 (in), 27 RTS2/GPIO5 (out), 28 RTS3/GPIO7 (out), 29 DTR2/TNOW2/GPIO10 (out), 30 TXD0 (out), 31 RXD0 (in), 32 CTS0/GPIO0 (in), 33 RTS0/GPIO1 (out), 34 DTR0/TNOW0/GPIO8 (out), 35 GND (power), 36 VCC (power), 37 TXD7 (out), 38 RXD7 (in), 39 DTR3/TNOW3/GPIO11 (out), 40 TXD4 (out), 41 RXD4 (in), 42 UD- (io), 43 UD+ (io), 44 TEST (in), 45 TXD5 (out), 46 RXD5 (in), 47 GND (power), 48 VCC (power)

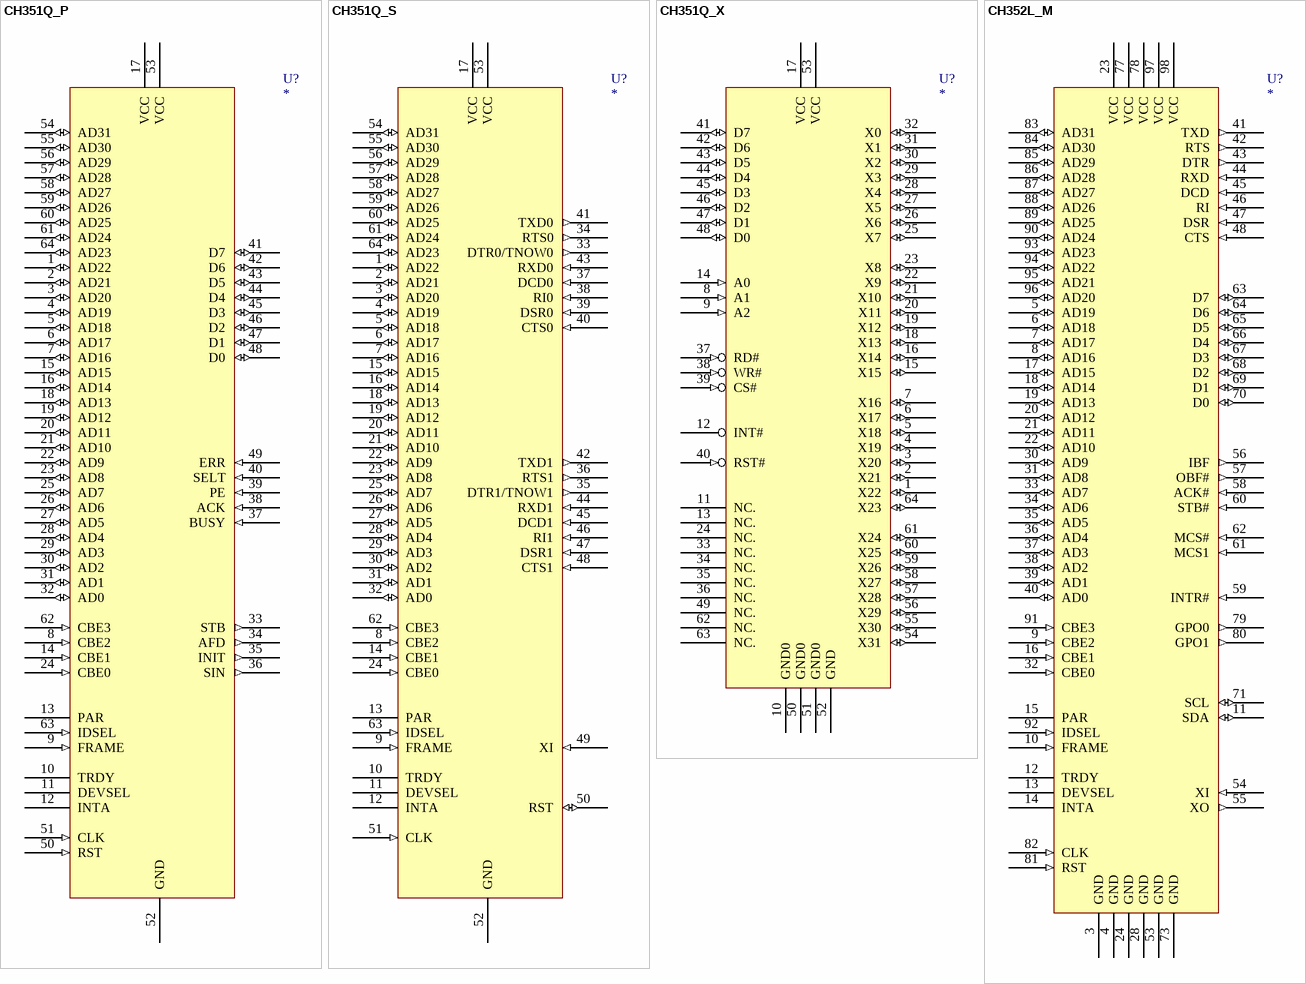
[diagram p26: symbols CH351Q_P to CH352L_M]

## CH351Q_P
designator U?
PCI to 1P: Print Port / Parallel
footprint LQFP64
pins: 1 AD22 (io), 2 AD21 (io), 3 AD20 (io), 4 AD19 (io), 5 AD18 (io), 6 AD17 (io), 7 AD16 (io), 8 CBE2 (in), 9 FRAME (in), 10 TRDY (hiz), 11 DEVSEL (hiz), 12 INTA (hiz), 13 PAR (hiz), 14 CBE1 (in), 15 AD15 (io), 16 AD14 (io), 17 VCC (power), 18 AD13 (io), 19 AD12 (io), 20 AD11 (io), 21 AD10 (io), 22 AD9 (io), 23 AD8 (io), 24 CBE0 (in), 25 AD7 (io), 26 AD6 (io), 27 AD5 (io), 28 AD4 (io), 29 AD3 (io), 30 AD2 (io), 31 AD1 (io), 32 AD0 (io), 33 STB (out), 34 AFD (out), 35 INIT (out), 36 SIN (out), 37 BUSY (in), 38 ACK (in), 39 PE (in), 40 SELT (in), 41 D7 (io), 42 D6 (io), 43 D5 (io), 44 D4 (io), 45 D3 (io), 46 D2 (io), 47 D1 (io), 48 D0 (io), 49 ERR (in), 50 RST (in), 51 CLK (in), 52 GND (power), 53 VCC (power), 54 AD31 (io), 55 AD30 (io), 56 AD29 (io), 57 AD28 (io), 58 AD27 (io), 59 AD26 (io), 60 AD25 (io), 61 AD24 (io), 62 CBE3 (in), 63 IDSEL (in), 64 AD23 (io)

## CH351Q_S
designator U?
PCI to 2S: Dual 16C550 UART, TTL Serial*2
footprint LQFP64
pins: 1 AD22 (io), 2 AD21 (io), 3 AD20 (io), 4 AD19 (io), 5 AD18 (io), 6 AD17 (io), 7 AD16 (io), 8 CBE2 (in), 9 FRAME (in), 10 TRDY (hiz), 11 DEVSEL (hiz), 12 INTA (hiz), 13 PAR (hiz), 14 CBE1 (in), 15 AD15 (io), 16 AD14 (io), 17 VCC (power), 18 AD13 (io), 19 AD12 (io), 20 AD11 (io), 21 AD10 (io), 22 AD9 (io), 23 AD8 (io), 24 CBE0 (in), 25 AD7 (io), 26 AD6 (io), 27 AD5 (io), 28 AD4 (io), 29 AD3 (io), 30 AD2 (io), 31 AD1 (io), 32 AD0 (io), 33 DTR0/TNOW0 (out), 34 RTS0 (out), 35 DTR1/TNOW1 (out), 36 RTS1 (out), 37 DCD0 (in), 38 RI0 (in), 39 DSR0 (in), 40 CTS0 (in), 41 TXD0 (out), 42 TXD1 (out), 43 RXD0 (in), 44 RXD1 (in), 45 DCD1 (in), 46 RI1 (in), 47 DSR1 (in), 48 CTS1 (in), 49 XI (in), 50 RST (io), 51 CLK (in), 52 GND (power), 53 VCC (power), 54 AD31 (io), 55 AD30 (io), 56 AD29 (io), 57 AD28 (io), 58 AD27 (io), 59 AD26 (io), 60 AD25 (io), 61 AD24 (io), 62 CBE3 (in), 63 IDSEL (in), 64 AD23 (io)

## CH351Q_X
designator U?
Parallel I/O expander, 32 GPIO
footprint LQFP64
pins: 1 X22 (io), 2 X21 (io), 3 X20 (io), 4 X19 (io), 5 X18 (io), 6 X17 (io), 7 X16 (io), 8 A1 (in), 9 A2 (in), 10 GND0 (power), 11 NC., 12 INT# (oc), 13 NC., 14 A0 (in), 15 X15 (io), 16 X14 (io), 17 VCC (power), 18 X13 (io), 19 X12 (io), 20 X11 (io), 21 X10 (io), 22 X9 (io), 23 X8 (io), 24 NC., 25 X7 (io), 26 X6 (io), 27 X5 (io), 28 X4 (io), 29 X3 (io), 30 X2 (io), 31 X1 (io), 32 X0 (io), 33 NC., 34 NC., 35 NC., 36 NC., 37 RD# (in), 38 WR# (in), 39 CS# (in), 40 RST# (in), 41 D7 (io), 42 D6 (io), 43 D5 (io), 44 D4 (io), 45 D3 (io), 46 D2 (io), 47 D1 (io), 48 D0 (io), 49 NC., 50 GND0 (power), 51 GND0 (power), 52 GND (power), 53 VCC (power), 54 X31 (io), 55 X30 (io), 56 X29 (io), 57 X28 (io), 58 X27 (io), 59 X26 (io), 60 X25 (io), 61 X24 (io), 62 NC., 63 NC., 64 X23 (io)

## CH352L_M
designator U?
PCI to 8255 mode 2 Parallel for MCU and 16C550 UART / IrDA
footprint LQFP100
pins: 3 GND (power), 4 GND (power), 5 AD19 (io), 6 AD18 (io), 7 AD17 (io), 8 AD16 (io), 9 CBE2 (in), 10 FRAME (in), 11 SDA (io), 12 TRDY (hiz), 13 DEVSEL (hiz), 14 INTA (hiz), 15 PAR (hiz), 16 CBE1 (in), 17 AD15 (io), 18 AD14 (io), 19 AD13 (io), 20 AD12 (io), 21 AD11 (io), 22 AD10 (io), 23 VCC (power), 24 GND (power), 28 GND (power), 30 AD9 (io), 31 AD8 (io), 32 CBE0 (in), 33 AD7 (io), 34 AD6 (io), 35 AD5 (io), 36 AD4 (io), 37 AD3 (io), 38 AD2 (io), 39 AD1 (io), 40 AD0 (io), 41 TXD (out), 42 RTS (out), 43 DTR (out), 44 RXD (in), 45 DCD (in), 46 RI (in), 47 DSR (in), 48 CTS (in), 53 GND (power), 54 XI (in), 55 XO (out), 56 IBF (out), 57 OBF# (out), 58 ACK# (in), 59 INTR# (in), 60 STB# (in), 61 MCS1 (in), 62 MCS# (in), 63 D7 (io), 64 D6 (io), 65 D5 (io), 66 D4 (io), 67 D3 (io), 68 D2 (io), 69 D1 (io), 70 D0 (io), 71 SCL (io), 73 GND (power), 77 VCC (power), 78 VCC (power), 79 GPO0 (out), 80 GPO1 (out), 81 RST (in), 82 CLK (in), 83 AD31 (io), 84 AD30 (io), 85 AD29 (io), 86 AD28 (io), 87 AD27 (io), 88 AD26 (io), 89 AD25 (io), 90 AD24 (io), 91 CBE3 (in), 92 IDSEL (in), 93 AD23 (io), 94 AD22 (io), 95 AD21 (io), 96 AD20 (io), 97 VCC (power), 98 VCC (power)

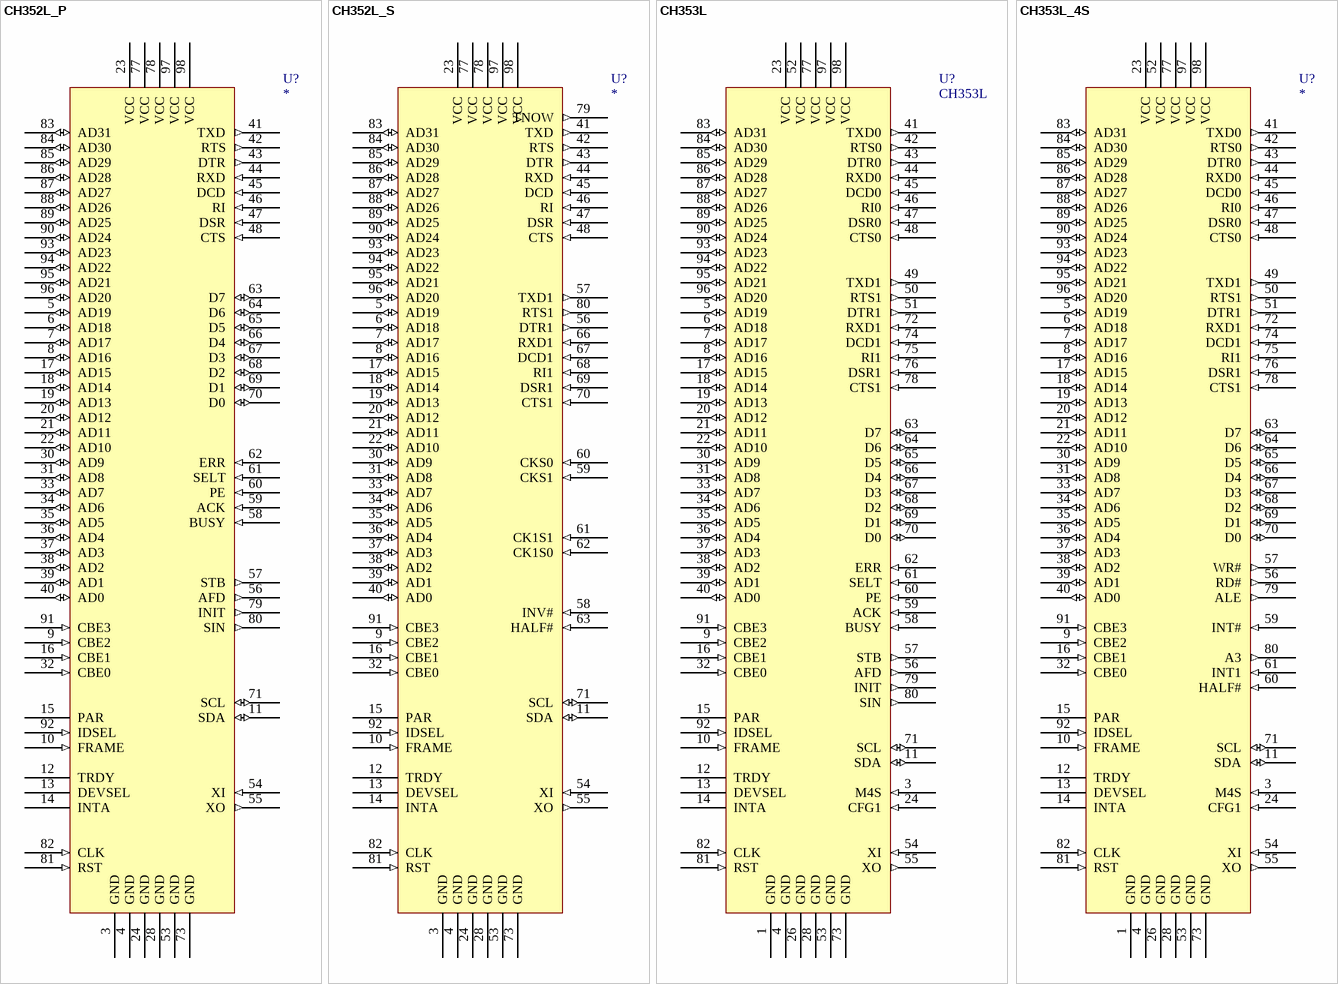
[diagram p27: symbols CH352L_P to CH353L_4S]

## CH352L_P
designator U?
PCI to 1S1P: Print Port / Parallel and 16C550 UART / IrDA
footprint LQFP100
pins: 3 GND (power), 4 GND (power), 5 AD19 (io), 6 AD18 (io), 7 AD17 (io), 8 AD16 (io), 9 CBE2 (in), 10 FRAME (in), 11 SDA (io), 12 TRDY (hiz), 13 DEVSEL (hiz), 14 INTA (hiz), 15 PAR (hiz), 16 CBE1 (in), 17 AD15 (io), 18 AD14 (io), 19 AD13 (io), 20 AD12 (io), 21 AD11 (io), 22 AD10 (io), 23 VCC (power), 24 GND (power), 28 GND (power), 30 AD9 (io), 31 AD8 (io), 32 CBE0 (in), 33 AD7 (io), 34 AD6 (io), 35 AD5 (io), 36 AD4 (io), 37 AD3 (io), 38 AD2 (io), 39 AD1 (io), 40 AD0 (io), 41 TXD (out), 42 RTS (out), 43 DTR (out), 44 RXD (in), 45 DCD (in), 46 RI (in), 47 DSR (in), 48 CTS (in), 53 GND (power), 54 XI (in), 55 XO (out), 56 AFD (out), 57 STB (out), 58 BUSY (in), 59 ACK (in), 60 PE (in), 61 SELT (in), 62 ERR (in), 63 D7 (io), 64 D6 (io), 65 D5 (io), 66 D4 (io), 67 D3 (io), 68 D2 (io), 69 D1 (io), 70 D0 (io), 71 SCL (io), 73 GND (power), 77 VCC (power), 78 VCC (power), 79 INIT (out), 80 SIN (out), 81 RST (in), 82 CLK (in), 83 AD31 (io), 84 AD30 (io), 85 AD29 (io), 86 AD28 (io), 87 AD27 (io), 88 AD26 (io), 89 AD25 (io), 90 AD24 (io), 91 CBE3 (in), 92 IDSEL (in), 93 AD23 (io), 94 AD22 (io), 95 AD21 (io), 96 AD20 (io), 97 VCC (power), 98 VCC (power)

## CH352L_S
designator U?
PCI to 2S: Dual 16C550 UART, TTL Serial*2 / IrDA*1
footprint LQFP100
pins: 3 GND (power), 4 GND (power), 5 AD19 (io), 6 AD18 (io), 7 AD17 (io), 8 AD16 (io), 9 CBE2 (in), 10 FRAME (in), 11 SDA (io), 12 TRDY (hiz), 13 DEVSEL (hiz), 14 INTA (hiz), 15 PAR (hiz), 16 CBE1 (in), 17 AD15 (io), 18 AD14 (io), 19 AD13 (io), 20 AD12 (io), 21 AD11 (io), 22 AD10 (io), 23 VCC (power), 24 GND (power), 28 GND (power), 30 AD9 (io), 31 AD8 (io), 32 CBE0 (in), 33 AD7 (io), 34 AD6 (io), 35 AD5 (io), 36 AD4 (io), 37 AD3 (io), 38 AD2 (io), 39 AD1 (io), 40 AD0 (io), 41 TXD (out), 42 RTS (out), 43 DTR (out), 44 RXD (in), 45 DCD (in), 46 RI (in), 47 DSR (in), 48 CTS (in), 53 GND (power), 54 XI (in), 55 XO (out), 56 DTR1 (out), 57 TXD1 (out), 58 INV# (in), 59 CKS1 (in), 60 CKS0 (in), 61 CK1S1 (in), 62 CK1S0 (in), 63 HALF# (in), 66 RXD1 (in), 67 DCD1 (in), 68 RI1 (in), 69 DSR1 (in), 70 CTS1 (in), 71 SCL (io), 73 GND (power), 77 VCC (power), 78 VCC (power), 79 TNOW (out), 80 RTS1 (out), 81 RST (in), 82 CLK (in), 83 AD31 (io), 84 AD30 (io), 85 AD29 (io), 86 AD28 (io), 87 AD27 (io), 88 AD26 (io), 89 AD25 (io), 90 AD24 (io), 91 CBE3 (in), 92 IDSEL (in), 93 AD23 (io), 94 AD22 (io), 95 AD21 (io), 96 AD20 (io), 97 VCC (power), 98 VCC (power)

## CH353L
designator U?
PCI to 2S1P: Print Port / Parallel and Dual 16C550 UART / IrDA*1
footprint LQFP100
pins: 1 GND (power), 3 M4S (in), 4 GND (power), 5 AD19 (io), 6 AD18 (io), 7 AD17 (io), 8 AD16 (io), 9 CBE2 (in), 10 FRAME (in), 11 SDA (io), 12 TRDY (hiz), 13 DEVSEL (hiz), 14 INTA (hiz), 15 PAR (hiz), 16 CBE1 (in), 17 AD15 (io), 18 AD14 (io), 19 AD13 (io), 20 AD12 (io), 21 AD11 (io), 22 AD10 (io), 23 VCC (power), 24 CFG1 (in), 26 GND (power), 28 GND (power), 30 AD9 (io), 31 AD8 (io), 32 CBE0 (in), 33 AD7 (io), 34 AD6 (io), 35 AD5 (io), 36 AD4 (io), 37 AD3 (io), 38 AD2 (io), 39 AD1 (io), 40 AD0 (io), 41 TXD0 (out), 42 RTS0 (out), 43 DTR0 (out), 44 RXD0 (in), 45 DCD0 (in), 46 RI0 (in), 47 DSR0 (in), 48 CTS0 (in), 49 TXD1 (out), 50 RTS1 (out), 51 DTR1 (out), 52 VCC (power), 53 GND (power), 54 XI (in), 55 XO (out), 56 AFD (out), 57 STB (out), 58 BUSY (in), 59 ACK (in), 60 PE (in), 61 SELT (in), 62 ERR (in), 63 D7 (io), 64 D6 (io), 65 D5 (io), 66 D4 (io), 67 D3 (io), 68 D2 (io), 69 D1 (io), 70 D0 (io), 71 SCL (io), 72 RXD1 (in), 73 GND (power), 74 DCD1 (in), 75 RI1 (in), 76 DSR1 (in), 77 VCC (power), 78 CTS1 (in), 79 INIT (out), 80 SIN (out), 81 RST (in), 82 CLK (in), 83 AD31 (io), 84 AD30 (io), 85 AD29 (io), 86 AD28 (io), 87 AD27 (io), 88 AD26 (io), 89 AD25 (io), 90 AD24 (io), 91 CBE3 (in), 92 IDSEL (in), 93 AD23 (io), 94 AD22 (io), 95 AD21 (io), 96 AD20 (io), 97 VCC (power), 98 VCC (power)